# Altium schematic symbol library 2.0 - STM8系列单片机.SchLib: 126 symbols (part 1 of 4)
Pins are listed as number, name and electrical type; pins without a type are passive.

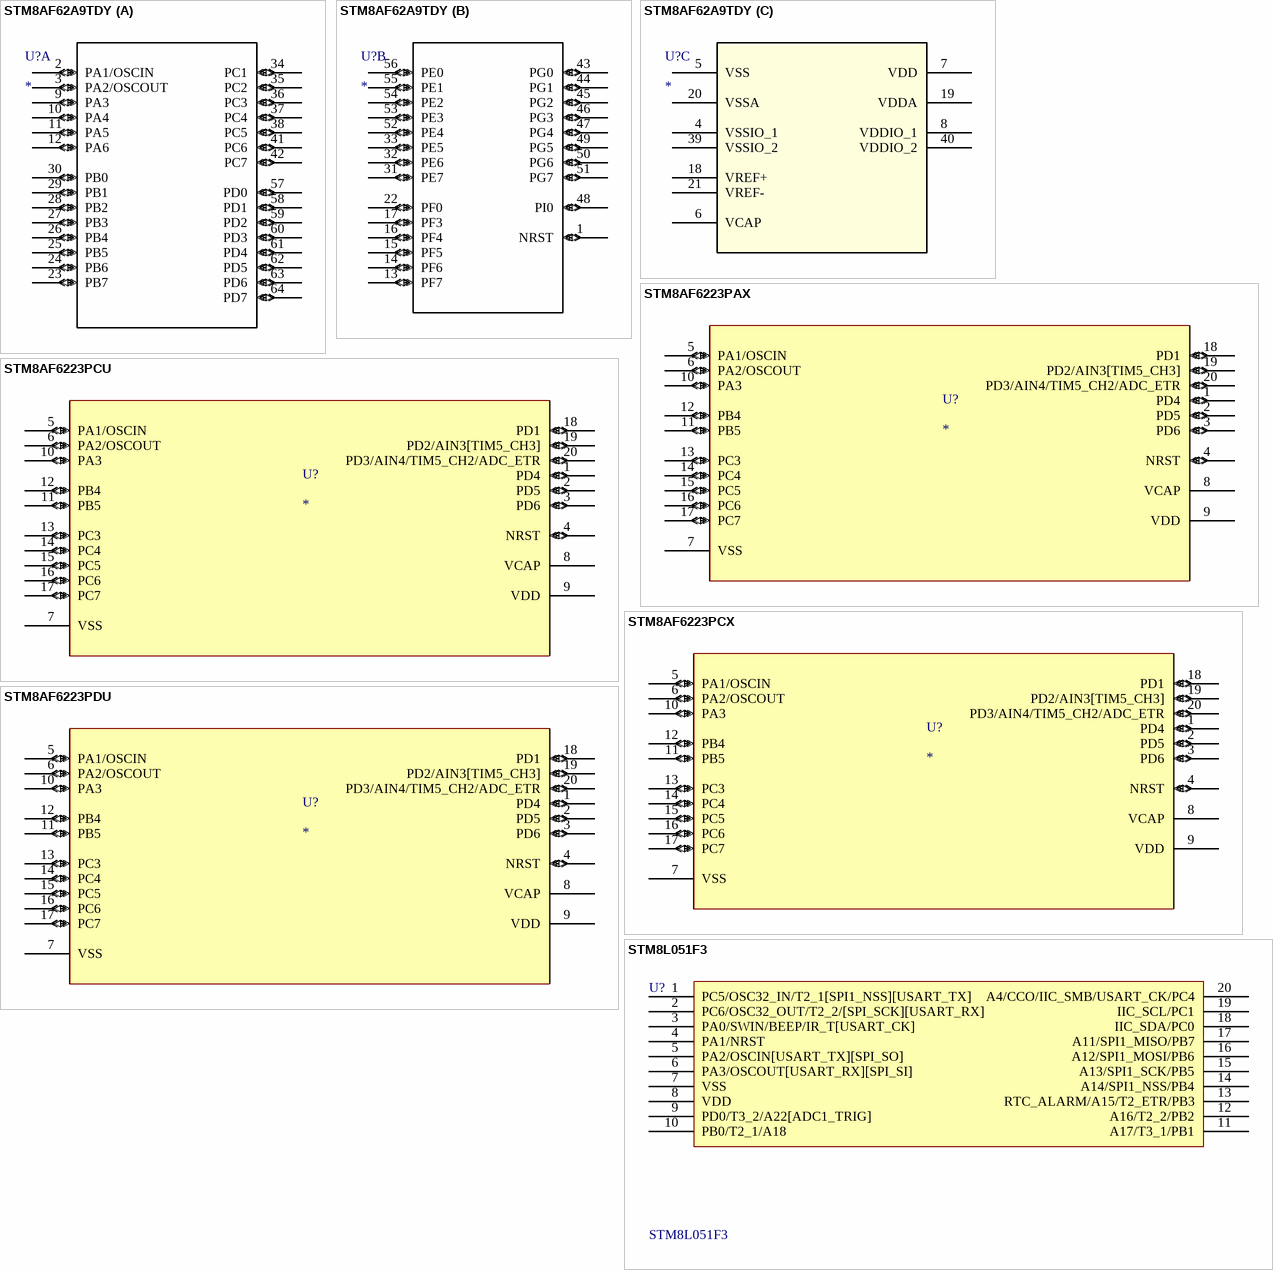
[diagram p0: symbols STM8AF62A9TDY to STM8L051F3]

## STM8AF62A9TDY
designator U?
封装库来自淘宝卖家 ID：黄晶宝石: 其他店铺购入均为盗版假冒封装库; 联系卖家 免费查找封装: 唯一出售店铺网址https://shop463601444.taobao.com
footprint LQFP64_N (封装库来自淘宝 ID：黄晶宝石 Thin QFP, 64-Leads, Body 10x10mm, Pitch 0.5mm, IPC Medium Density)
part A pins: 2 PA1/OSCIN (io), 3 PA2/OSCOUT (io), 9 PA3 (io), 10 PA4 (io), 11 PA5 (io), 12 PA6 (io), 23 PB7 (io), 24 PB6 (io), 25 PB5 (io), 26 PB4 (io), 27 PB3 (io), 28 PB2 (io), 29 PB1 (io), 30 PB0 (io), 34 PC1 (io), 35 PC2 (io), 36 PC3 (io), 37 PC4 (io), 38 PC5 (io), 41 PC6 (io), 42 PC7 (io), 57 PD0 (io), 58 PD1 (io), 59 PD2 (io), 60 PD3 (io), 61 PD4 (io), 62 PD5 (io), 63 PD6 (io), 64 PD7 (io)
part B pins: 1 NRST (io), 13 PF7 (io), 14 PF6 (io), 15 PF5 (io), 16 PF4 (io), 17 PF3 (io), 22 PF0 (io), 31 PE7 (io), 32 PE6 (io), 33 PE5 (io), 43 PG0 (io), 44 PG1 (io), 45 PG2 (io), 46 PG3 (io), 47 PG4 (io), 48 PI0 (io), 49 PG5 (io), 50 PG6 (io), 51 PG7 (io), 52 PE4 (io), 53 PE3 (io), 54 PE2 (io), 55 PE1 (io), 56 PE0 (io)
part C pins: 4 VSSIO_1 (power), 5 VSS (power), 6 VCAP (power), 7 VDD (power), 8 VDDIO_1 (power), 18 VREF+ (power), 19 VDDA (power), 20 VSSA (power), 21 VREF- (power), 39 VSSIO_2 (power), 40 VDDIO_2 (power)

## STM8AF6223PAX
designator U?
封装库来自淘宝卖家 ID：黄晶宝石: 其他店铺购入均为盗版假冒封装库; 联系卖家 免费查找封装: 唯一出售店铺网址https://shop463601444.taobao.com
footprint TSSOP20_N (TSOP, 20-Leads, Body 6.5x4.4mm, Pitch 0.65mm, IPC Medium Density)
pins: 1 PD4 (io), 2 PD5 (io), 3 PD6 (io), 4 NRST (io), 5 PA1/OSCIN (io), 6 PA2/OSCOUT (io), 7 VSS (power), 8 VCAP (power), 9 VDD (power), 10 PA3 (io), 11 PB5 (io), 12 PB4 (io), 13 PC3 (io), 14 PC4 (io), 15 PC5 (io), 16 PC6 (io), 17 PC7 (io), 18 PD1 (io), 19 PD2/AIN3[TIM5_CH3] (io), 20 PD3/AIN4/TIM5_CH2/ADC_ETR (io)

## STM8AF6223PCU
designator U?
封装库来自淘宝卖家 ID：黄晶宝石: 其他店铺购入均为盗版假冒封装库; 联系卖家 免费查找封装: 唯一出售店铺网址https://shop463601444.taobao.com
footprint TSSOP20_N (TSOP, 20-Leads, Body 6.5x4.4mm, Pitch 0.65mm, IPC Medium Density)
pins: 1 PD4 (io), 2 PD5 (io), 3 PD6 (io), 4 NRST (io), 5 PA1/OSCIN (io), 6 PA2/OSCOUT (io), 7 VSS (power), 8 VCAP (power), 9 VDD (power), 10 PA3 (io), 11 PB5 (io), 12 PB4 (io), 13 PC3 (io), 14 PC4 (io), 15 PC5 (io), 16 PC6 (io), 17 PC7 (io), 18 PD1 (io), 19 PD2/AIN3[TIM5_CH3] (io), 20 PD3/AIN4/TIM5_CH2/ADC_ETR (io)

## STM8AF6223PCX
designator U?
封装库来自淘宝卖家 ID：黄晶宝石: 其他店铺购入均为盗版假冒封装库; 联系卖家 免费查找封装: 唯一出售店铺网址https://shop463601444.taobao.com
footprint TSSOP20_N (TSOP, 20-Leads, Body 6.5x4.4mm, Pitch 0.65mm, IPC Medium Density)
pins: 1 PD4 (io), 2 PD5 (io), 3 PD6 (io), 4 NRST (io), 5 PA1/OSCIN (io), 6 PA2/OSCOUT (io), 7 VSS (power), 8 VCAP (power), 9 VDD (power), 10 PA3 (io), 11 PB5 (io), 12 PB4 (io), 13 PC3 (io), 14 PC4 (io), 15 PC5 (io), 16 PC6 (io), 17 PC7 (io), 18 PD1 (io), 19 PD2/AIN3[TIM5_CH3] (io), 20 PD3/AIN4/TIM5_CH2/ADC_ETR (io)

## STM8AF6223PDU
designator U?
封装库来自淘宝卖家 ID：黄晶宝石: 其他店铺购入均为盗版假冒封装库; 联系卖家 免费查找封装: 唯一出售店铺网址https://shop463601444.taobao.com
footprint TSSOP20_N (TSOP, 20-Leads, Body 6.5x4.4mm, Pitch 0.65mm, IPC Medium Density)
pins: 1 PD4 (io), 2 PD5 (io), 3 PD6 (io), 4 NRST (io), 5 PA1/OSCIN (io), 6 PA2/OSCOUT (io), 7 VSS (power), 8 VCAP (power), 9 VDD (power), 10 PA3 (io), 11 PB5 (io), 12 PB4 (io), 13 PC3 (io), 14 PC4 (io), 15 PC5 (io), 16 PC6 (io), 17 PC7 (io), 18 PD1 (io), 19 PD2/AIN3[TIM5_CH3] (io), 20 PD3/AIN4/TIM5_CH2/ADC_ETR (io)

## STM8L051F3
designator U?
Flash: 8K,     RAM: 1K,  IO: 18; BOM名称: STM-8位单片机; 封装库来自淘宝卖家 ID：黄晶宝石: 唯一出售店铺网址https://shop463601444.taobao.com; 参数: Flash: 8K,     RAM: 1K,  IO: 18
footprint TSSOP20_N (6.5*6.4*1（长宽高）)
footprint TSSOP20_L (6.5*6.4*1（长宽高）)
footprint TSSOP20_M (6.5*6.4*1（长宽高）)
pins: 1 PC5/OSC32_IN/T2_1[SPI1_NSS][USART_TX], 2 PC6/OSC32_OUT/T2_2/[SPI_SCK][USART_RX], 3 PA0/SWIN/BEEP/IR_T[USART_CK], 4 PA1/NRST, 5 PA2/OSCIN[USART_TX][SPI_SO], 6 PA3/OSCOUT[USART_RX][SPI_SI], 7 VSS, 8 VDD, 9 PD0/T3_2/A22[ADC1_TRIG], 10 PB0/T2_1/A18, 11 A17/T3_1/PB1, 12 A16/T2_2/PB2, 13 RTC_ALARM/A15/T2_ETR/PB3, 14 A14/SPI1_NSS/PB4, 15 A13/SPI1_SCK/PB5, 16 A12/SPI1_MOSI/PB6, 17 A11/SPI1_MISO/PB7, 18 IIC_SDA/PC0, 19 IIC_SCL/PC1, 20 A4/CCO/IIC_SMB/USART_CK/PC4

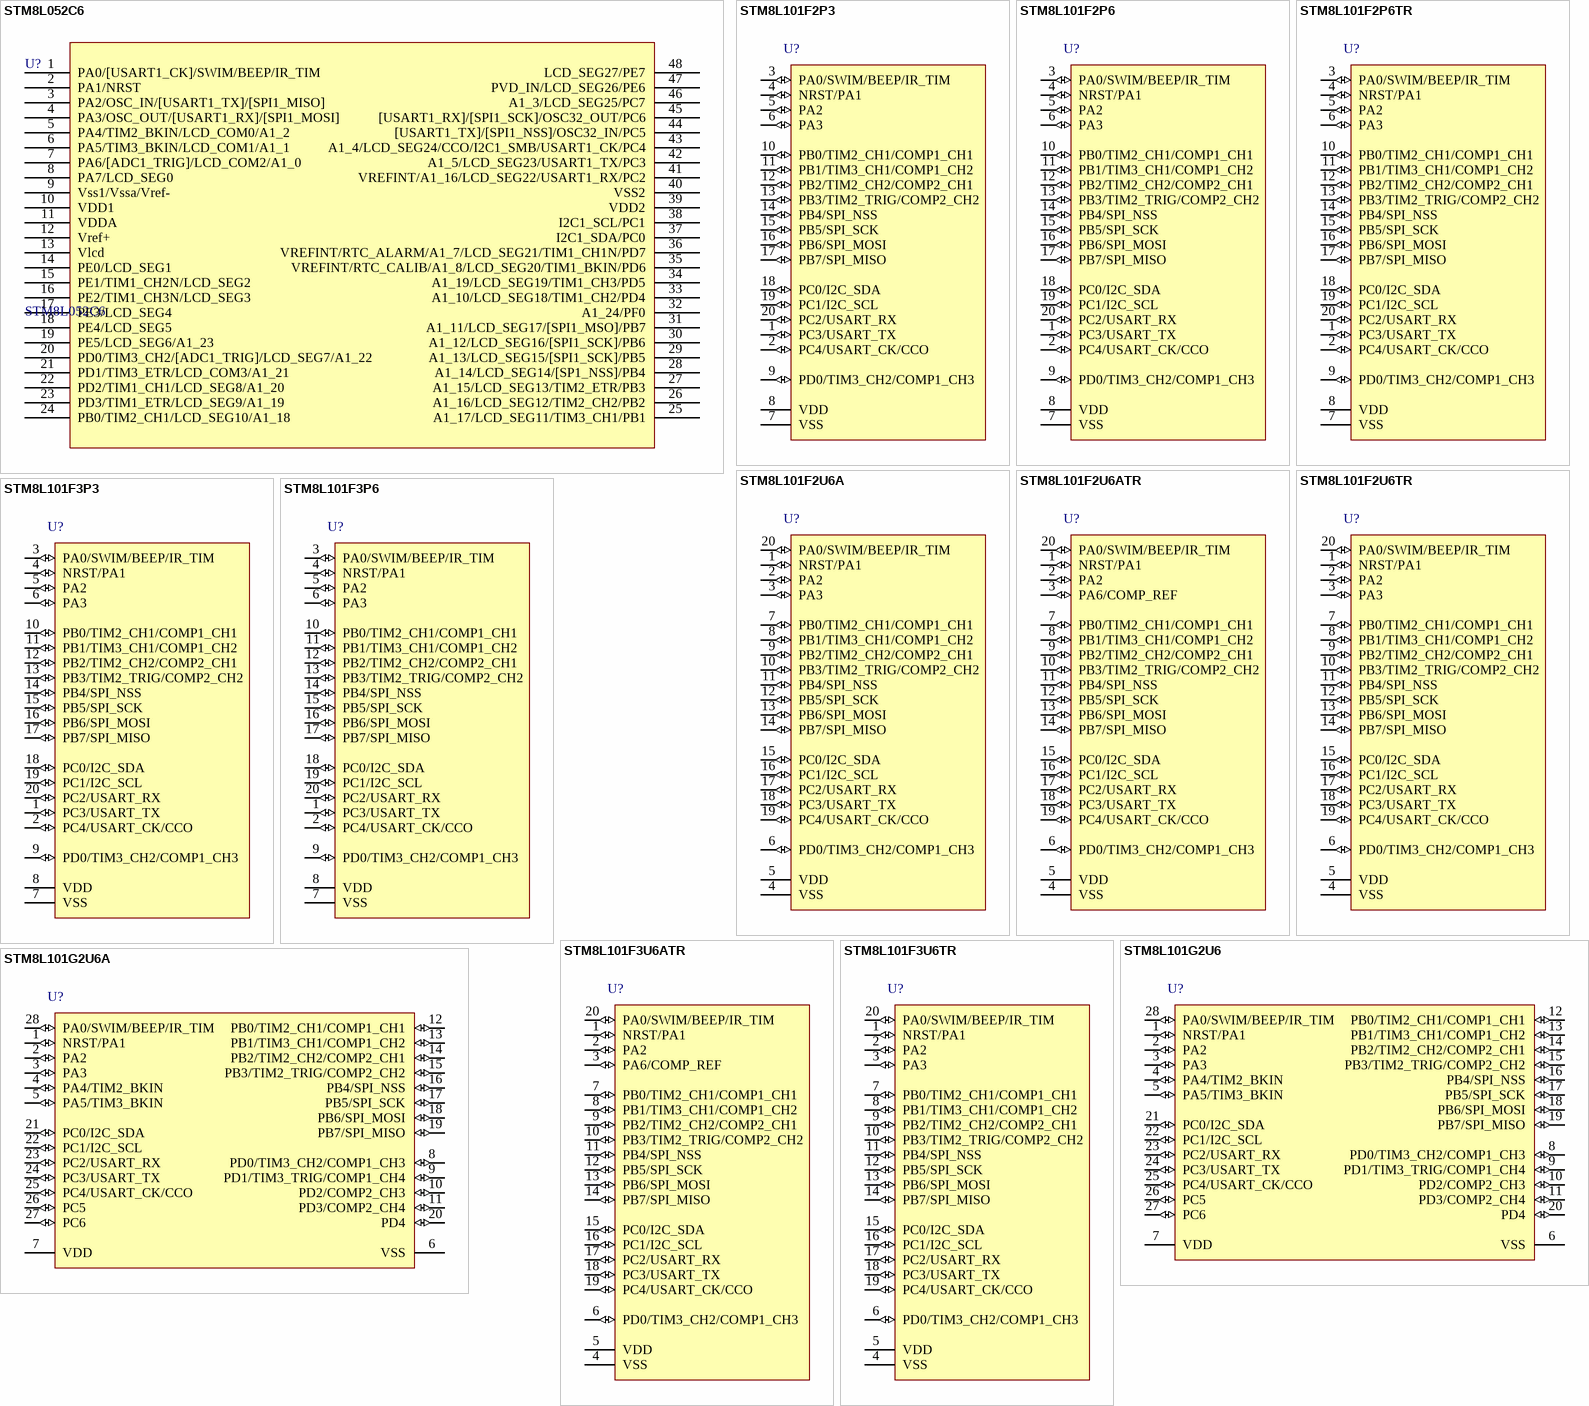
[diagram p1: symbols STM8L052C6 to STM8L101G2U6A]

## STM8L052C6
designator U?
Flash: 32K,    RAM: 2K,  IO: 41; BOM名称: STM-8位单片机; 封装库来自淘宝卖家 ID：黄晶宝石: 唯一出售店铺网址https://shop463601444.taobao.com; 参数: Flash: 32K,    RAM: 2K,  IO: 41
footprint LQFP48 7x7_N (48脚，体宽7x7mm，脚距0.5mm)
footprint LQFP48 7x7_L (48脚，体宽7x7mm，脚距0.5mm)
footprint LQFP48 7x7_M (48脚，体宽7x7mm，脚距0.5mm)
pins: 1 PA0/[USART1_CK]/SWIM/BEEP/IR_TIM, 2 PA1/NRST, 3 PA2/OSC_IN/[USART1_TX]/[SPI1_MISO], 4 PA3/OSC_OUT/[USART1_RX]/[SPI1_MOSI], 5 PA4/TIM2_BKIN/LCD_COM0/A1_2, 6 PA5/TIM3_BKIN/LCD_COM1/A1_1, 7 PA6/[ADC1_TRIG]/LCD_COM2/A1_0, 8 PA7/LCD_SEG0, 9 Vss1/Vssa/Vref-, 10 VDD1, 11 VDDA, 12 Vref+, 13 Vlcd, 14 PE0/LCD_SEG1, 15 PE1/TIM1_CH2N/LCD_SEG2, 16 PE2/TIM1_CH3N/LCD_SEG3, 17 PE3/LCD_SEG4, 18 PE4/LCD_SEG5, 19 PE5/LCD_SEG6/A1_23, 20 PD0/TIM3_CH2/[ADC1_TRIG]/LCD_SEG7/A1_22, 21 PD1/TIM3_ETR/LCD_COM3/A1_21, 22 PD2/TIM1_CH1/LCD_SEG8/A1_20, 23 PD3/TIM1_ETR/LCD_SEG9/A1_19, 24 PB0/TIM2_CH1/LCD_SEG10/A1_18, 25 A1_17/LCD_SEG11/TIM3_CH1/PB1, 26 A1_16/LCD_SEG12/TIM2_CH2/PB2, 27 A1_15/LCD_SEG13/TIM2_ETR/PB3, 28 A1_14/LCD_SEG14/[SP1_NSS]/PB4, 29 A1_13/LCD_SEG15/[SPI1_SCK]/PB5, 30 A1_12/LCD_SEG16/[SPI1_SCK]/PB6, 31 A1_11/LCD_SEG17/[SPI1_MSO]/PB7, 32 A1_24/PF0, 33 A1_10/LCD_SEG18/TIM1_CH2/PD4, 34 A1_19/LCD_SEG19/TIM1_CH3/PD5, 35 VREFINT/RTC_CALIB/A1_8/LCD_SEG20/TIM1_BKIN/PD6, 36 VREFINT/RTC_ALARM/A1_7/LCD_SEG21/TIM1_CH1N/PD7, 37 I2C1_SDA/PC0, 38 I2C1_SCL/PC1, 39 VDD2, 40 VSS2, 41 VREFINT/A1_16/LCD_SEG22/USART1_RX/PC2, 42 A1_5/LCD_SEG23/USART1_TX/PC3, 43 A1_4/LCD_SEG24/CCO/I2C1_SMB/USART1_CK/PC4, 44 [USART1_TX]/[SPI1_NSS]/OSC32_IN/PC5, 45 [USART1_RX]/[SPI1_SCK]/OSC32_OUT/PC6, 46 A1_3/LCD_SEG25/PC7, 47 PVD_IN/LCD_SEG26/PE6, 48 LCD_SEG27/PE7

## STM8L101F2P3
designator U?
STM8L ARM-based EnergyLite 8-bit MCU, 4 kB Flash, 1.5 kB Internal RAM, -40 to +85癈 Temperature, 20-pin TSSOP, Tube; 封装库来自淘宝卖家ID：黄晶宝石: 其他店铺购入均为盗版假冒封装库; PackageVersion: 2010; PackageReference: TSSOP20; PackageDescription: 20-Pin Thin Shrink Small Package Outline 0.65 mm Pitch; ComponentLink1Description: Manufacturer URL; ComponentLink1URL: http://www.st.com/; ComponentLink2Description: STM8L101 Datasheet; ComponentLink2URL: http://www.st.com/internet/com/TECHNICAL_RESOURCES/TECHNICAL_LITERATURE/DATASHEET/CD00220591.pdf; ComponentLink3Description: STM8L Family Web Page; ComponentLink3URL: http://www.st.com/internet/mcu/subclass/1381.jsp
footprint TSSOP20_N (Manufacturer "STMicroelectronics" not found)
footprint TSSOP20_L (TSOP, 20-Leads, Body 6.5x4.4mm, Pitch 0.65mm, IPC High Density)
footprint TSSOP20_M (TSOP, 20-Leads, Body 6.5x4.4mm, Pitch 0.65mm, IPC Low Density)
pins: 1 PC3/USART_TX (io), 2 PC4/USART_CK/CCO (io), 3 PA0/SWIM/BEEP/IR_TIM (io), 4 NRST/PA1 (io), 5 PA2 (io), 6 PA3 (io), 7 VSS (power), 8 VDD (power), 9 PD0/TIM3_CH2/COMP1_CH3 (io), 10 PB0/TIM2_CH1/COMP1_CH1 (io), 11 PB1/TIM3_CH1/COMP1_CH2 (io), 12 PB2/TIM2_CH2/COMP2_CH1 (io), 13 PB3/TIM2_TRIG/COMP2_CH2 (io), 14 PB4/SPI_NSS (io), 15 PB5/SPI_SCK (io), 16 PB6/SPI_MOSI (io), 17 PB7/SPI_MISO (io), 18 PC0/I2C_SDA (io), 19 PC1/I2C_SCL (io), 20 PC2/USART_RX (io)

## STM8L101F2P6
designator U?
STM8L ARM-based EnergyLite 8-bit MCU, 4 kB Flash, 1.5 kB Internal RAM, -40 to +85癈 Temperature, 20-pin TSSOP, Tube; 封装库来自淘宝卖家ID：黄晶宝石: 其他店铺购入均为盗版假冒封装库; PackageVersion: 2010; PackageReference: TSSOP20; PackageDescription: 20-Pin Thin Shrink Small Package Outline 0.65 mm Pitch; ComponentLink1Description: Manufacturer URL; ComponentLink1URL: http://www.st.com/; ComponentLink2Description: STM8L101 Datasheet; ComponentLink2URL: http://www.st.com/internet/com/TECHNICAL_RESOURCES/TECHNICAL_LITERATURE/DATASHEET/CD00220591.pdf; ComponentLink3Description: STM8L Family Web Page; ComponentLink3URL: http://www.st.com/internet/mcu/subclass/1381.jsp
footprint TSSOP20_N (Manufacturer "STMicroelectronics" not found)
footprint TSSOP20_L (TSOP, 20-Leads, Body 6.5x4.4mm, Pitch 0.65mm, IPC High Density)
footprint TSSOP20_M (TSOP, 20-Leads, Body 6.5x4.4mm, Pitch 0.65mm, IPC Low Density)
pins: 1 PC3/USART_TX (io), 2 PC4/USART_CK/CCO (io), 3 PA0/SWIM/BEEP/IR_TIM (io), 4 NRST/PA1 (io), 5 PA2 (io), 6 PA3 (io), 7 VSS (power), 8 VDD (power), 9 PD0/TIM3_CH2/COMP1_CH3 (io), 10 PB0/TIM2_CH1/COMP1_CH1 (io), 11 PB1/TIM3_CH1/COMP1_CH2 (io), 12 PB2/TIM2_CH2/COMP2_CH1 (io), 13 PB3/TIM2_TRIG/COMP2_CH2 (io), 14 PB4/SPI_NSS (io), 15 PB5/SPI_SCK (io), 16 PB6/SPI_MOSI (io), 17 PB7/SPI_MISO (io), 18 PC0/I2C_SDA (io), 19 PC1/I2C_SCL (io), 20 PC2/USART_RX (io)

## STM8L101F2P6TR
designator U?
STM8L ARM-based EnergyLite 8-bit MCU, 4 kB Flash, 1.5 kB Internal RAM, -40 to +85癈 Temperature, 20-pin TSSOP, Tape and Reel; 封装库来自淘宝卖家ID：黄晶宝石: 其他店铺购入均为盗版假冒封装库; PackageVersion: 2010; PackageReference: TSSOP20; PackageDescription: 20-Pin Thin Shrink Small Package Outline 0.65 mm Pitch; ComponentLink1Description: Manufacturer URL; ComponentLink1URL: http://www.st.com/; ComponentLink2Description: STM8L101 Datasheet; ComponentLink2URL: http://www.st.com/internet/com/TECHNICAL_RESOURCES/TECHNICAL_LITERATURE/DATASHEET/CD00220591.pdf; ComponentLink3Description: STM8L Family Web Page; ComponentLink3URL: http://www.st.com/internet/mcu/subclass/1381.jsp
footprint TSSOP20_N (Manufacturer "STMicroelectronics" not found)
footprint TSSOP20_L (TSOP, 20-Leads, Body 6.5x4.4mm, Pitch 0.65mm, IPC High Density)
footprint TSSOP20_M (TSOP, 20-Leads, Body 6.5x4.4mm, Pitch 0.65mm, IPC Low Density)
pins: 1 PC3/USART_TX (io), 2 PC4/USART_CK/CCO (io), 3 PA0/SWIM/BEEP/IR_TIM (io), 4 NRST/PA1 (io), 5 PA2 (io), 6 PA3 (io), 7 VSS (power), 8 VDD (power), 9 PD0/TIM3_CH2/COMP1_CH3 (io), 10 PB0/TIM2_CH1/COMP1_CH1 (io), 11 PB1/TIM3_CH1/COMP1_CH2 (io), 12 PB2/TIM2_CH2/COMP2_CH1 (io), 13 PB3/TIM2_TRIG/COMP2_CH2 (io), 14 PB4/SPI_NSS (io), 15 PB5/SPI_SCK (io), 16 PB6/SPI_MOSI (io), 17 PB7/SPI_MISO (io), 18 PC0/I2C_SDA (io), 19 PC1/I2C_SCL (io), 20 PC2/USART_RX (io)

## STM8L101F2U6A
designator U?
STM8L ARM-based EnergyLite 8-bit MCU, 4 kB Flash, 1.5 kB Internal RAM, -40 to +85癈 Temperature, 20-pin UFQFPN, Tube, COMP_REF available; 封装库来自淘宝卖家ID：黄晶宝石: 其他店铺购入均为盗版假冒封装库; PackageVersion: 26/04/2010; PackageReference: UFQFPN20; PackageDescription: 20-Pin Ultra Thin Fine Pitch Quad Flat No-Lead, 3 x 3 x 0.55 mm Body, 0.5 mm Pitch; ComponentLink1Description: Manufacturer URL; ComponentLink1URL: http://www.st.com/; ComponentLink2Description: STM8L101 Datasheet; ComponentLink2URL: http://www.st.com/internet/com/TECHNICAL_RESOURCES/TECHNICAL_LITERATURE/DATASHEET/CD00220591.pdf; ComponentLink3Description: STM8L Family Web Page; ComponentLink3URL: http://www.st.com/internet/mcu/subclass/1381.jsp
footprint UFQFPN20_V (Manufacturer "STMicroelectronics" not found)
pins: 1 NRST/PA1 (io), 2 PA2 (io), 3 PA3 (io), 4 VSS (power), 5 VDD (power), 6 PD0/TIM3_CH2/COMP1_CH3 (io), 7 PB0/TIM2_CH1/COMP1_CH1 (io), 8 PB1/TIM3_CH1/COMP1_CH2 (io), 9 PB2/TIM2_CH2/COMP2_CH1 (io), 10 PB3/TIM2_TRIG/COMP2_CH2 (io), 11 PB4/SPI_NSS (io), 12 PB5/SPI_SCK (io), 13 PB6/SPI_MOSI (io), 14 PB7/SPI_MISO (io), 15 PC0/I2C_SDA (io), 16 PC1/I2C_SCL (io), 17 PC2/USART_RX (io), 18 PC3/USART_TX (io), 19 PC4/USART_CK/CCO (io), 20 PA0/SWIM/BEEP/IR_TIM (io)

## STM8L101F2U6ATR
designator U?
STM8L ARM-based EnergyLite 8-bit MCU, 4 kB Flash, 1.5 kB Internal RAM, -40 to +85癈 Temperature, 20-pin UFQFPN, Tape and Reel, COMP_REF available; 封装库来自淘宝卖家ID：黄晶宝石: 其他店铺购入均为盗版假冒封装库; PackageVersion: 26/04/2010; PackageReference: UFQFPN20; PackageDescription: 20-Pin Ultra Thin Fine Pitch Quad Flat No-Lead, 3 x 3 x 0.55 mm Body, 0.5 mm Pitch; ComponentLink1Description: Manufacturer URL; ComponentLink1URL: http://www.st.com/; ComponentLink2Description: STM8L101 Datasheet; ComponentLink2URL: http://www.st.com/internet/com/TECHNICAL_RESOURCES/TECHNICAL_LITERATURE/DATASHEET/CD00220591.pdf; ComponentLink3Description: STM8L Family Web Page; ComponentLink3URL: http://www.st.com/internet/mcu/subclass/1381.jsp
footprint UFQFPN20_V (Manufacturer "STMicroelectronics" not found)
pins: 1 NRST/PA1 (io), 2 PA2 (io), 3 PA6/COMP_REF (io), 4 VSS (power), 5 VDD (power), 6 PD0/TIM3_CH2/COMP1_CH3 (io), 7 PB0/TIM2_CH1/COMP1_CH1 (io), 8 PB1/TIM3_CH1/COMP1_CH2 (io), 9 PB2/TIM2_CH2/COMP2_CH1 (io), 10 PB3/TIM2_TRIG/COMP2_CH2 (io), 11 PB4/SPI_NSS (io), 12 PB5/SPI_SCK (io), 13 PB6/SPI_MOSI (io), 14 PB7/SPI_MISO (io), 15 PC0/I2C_SDA (io), 16 PC1/I2C_SCL (io), 17 PC2/USART_RX (io), 18 PC3/USART_TX (io), 19 PC4/USART_CK/CCO (io), 20 PA0/SWIM/BEEP/IR_TIM (io)

## STM8L101F2U6TR
designator U?
STM8L ARM-based EnergyLite 8-bit MCU, 4 kB Flash, 1.5 kB Internal RAM, -40 to +85癈 Temperature, 20-pin UFQFPN, Tape and Reel; 封装库来自淘宝卖家ID：黄晶宝石: 其他店铺购入均为盗版假冒封装库; PackageVersion: 26/04/2010; PackageReference: UFQFPN20; PackageDescription: 20-Pin Ultra Thin Fine Pitch Quad Flat No-Lead, 3 x 3 x 0.55 mm Body, 0.5 mm Pitch; ComponentLink1Description: Manufacturer URL; ComponentLink1URL: http://www.st.com/; ComponentLink2Description: STM8L101 Datasheet; ComponentLink2URL: http://www.st.com/internet/com/TECHNICAL_RESOURCES/TECHNICAL_LITERATURE/DATASHEET/CD00220591.pdf; ComponentLink3Description: STM8L Family Web Page; ComponentLink3URL: http://www.st.com/internet/mcu/subclass/1381.jsp
footprint UFQFPN20_V (Manufacturer "STMicroelectronics" not found)
pins: 1 NRST/PA1 (io), 2 PA2 (io), 3 PA3 (io), 4 VSS (power), 5 VDD (power), 6 PD0/TIM3_CH2/COMP1_CH3 (io), 7 PB0/TIM2_CH1/COMP1_CH1 (io), 8 PB1/TIM3_CH1/COMP1_CH2 (io), 9 PB2/TIM2_CH2/COMP2_CH1 (io), 10 PB3/TIM2_TRIG/COMP2_CH2 (io), 11 PB4/SPI_NSS (io), 12 PB5/SPI_SCK (io), 13 PB6/SPI_MOSI (io), 14 PB7/SPI_MISO (io), 15 PC0/I2C_SDA (io), 16 PC1/I2C_SCL (io), 17 PC2/USART_RX (io), 18 PC3/USART_TX (io), 19 PC4/USART_CK/CCO (io), 20 PA0/SWIM/BEEP/IR_TIM (io)

## STM8L101F3P3
designator U?
STM8L ARM-based EnergyLite 8-bit MCU, 8 kB Flash, 1.5 kB Internal RAM, -40 to +125癈 Temperature, 20-pin TSSOP, Tube; 封装库来自淘宝卖家ID：黄晶宝石: 其他店铺购入均为盗版假冒封装库; PackageVersion: 2010; PackageReference: TSSOP20; PackageDescription: 20-Pin Thin Shrink Small Package Outline 0.65 mm Pitch; ComponentLink1Description: Manufacturer URL; ComponentLink1URL: http://www.st.com/; ComponentLink2Description: STM8L101 Datasheet; ComponentLink2URL: http://www.st.com/internet/com/TECHNICAL_RESOURCES/TECHNICAL_LITERATURE/DATASHEET/CD00220591.pdf; ComponentLink3Description: STM8L Family Web Page; ComponentLink3URL: http://www.st.com/internet/mcu/subclass/1381.jsp
footprint TSSOP20_N (Manufacturer "STMicroelectronics" not found)
footprint TSSOP20_L (TSOP, 20-Leads, Body 6.5x4.4mm, Pitch 0.65mm, IPC High Density)
footprint TSSOP20_M (TSOP, 20-Leads, Body 6.5x4.4mm, Pitch 0.65mm, IPC Low Density)
pins: 1 PC3/USART_TX (io), 2 PC4/USART_CK/CCO (io), 3 PA0/SWIM/BEEP/IR_TIM (io), 4 NRST/PA1 (io), 5 PA2 (io), 6 PA3 (io), 7 VSS (power), 8 VDD (power), 9 PD0/TIM3_CH2/COMP1_CH3 (io), 10 PB0/TIM2_CH1/COMP1_CH1 (io), 11 PB1/TIM3_CH1/COMP1_CH2 (io), 12 PB2/TIM2_CH2/COMP2_CH1 (io), 13 PB3/TIM2_TRIG/COMP2_CH2 (io), 14 PB4/SPI_NSS (io), 15 PB5/SPI_SCK (io), 16 PB6/SPI_MOSI (io), 17 PB7/SPI_MISO (io), 18 PC0/I2C_SDA (io), 19 PC1/I2C_SCL (io), 20 PC2/USART_RX (io)

## STM8L101F3P6
designator U?
STM8L ARM-based EnergyLite 8-bit MCU, 8 kB Flash, 1.5 kB Internal RAM, -40 to +85癈 Temperature, 20-pin TSSOP, Tube; 封装库来自淘宝卖家ID：黄晶宝石: 其他店铺购入均为盗版假冒封装库; PackageVersion: 2010; PackageReference: TSSOP20; PackageDescription: 20-Pin Thin Shrink Small Package Outline 0.65 mm Pitch; ComponentLink1Description: Manufacturer URL; ComponentLink1URL: http://www.st.com/; ComponentLink2Description: STM8L101 Datasheet; ComponentLink2URL: http://www.st.com/internet/com/TECHNICAL_RESOURCES/TECHNICAL_LITERATURE/DATASHEET/CD00220591.pdf; ComponentLink3Description: STM8L Family Web Page; ComponentLink3URL: http://www.st.com/internet/mcu/subclass/1381.jsp
footprint TSSOP20_N (Manufacturer "STMicroelectronics" not found)
footprint TSSOP20_L (TSOP, 20-Leads, Body 6.5x4.4mm, Pitch 0.65mm, IPC High Density)
footprint TSSOP20_M (TSOP, 20-Leads, Body 6.5x4.4mm, Pitch 0.65mm, IPC Low Density)
pins: 1 PC3/USART_TX (io), 2 PC4/USART_CK/CCO (io), 3 PA0/SWIM/BEEP/IR_TIM (io), 4 NRST/PA1 (io), 5 PA2 (io), 6 PA3 (io), 7 VSS (power), 8 VDD (power), 9 PD0/TIM3_CH2/COMP1_CH3 (io), 10 PB0/TIM2_CH1/COMP1_CH1 (io), 11 PB1/TIM3_CH1/COMP1_CH2 (io), 12 PB2/TIM2_CH2/COMP2_CH1 (io), 13 PB3/TIM2_TRIG/COMP2_CH2 (io), 14 PB4/SPI_NSS (io), 15 PB5/SPI_SCK (io), 16 PB6/SPI_MOSI (io), 17 PB7/SPI_MISO (io), 18 PC0/I2C_SDA (io), 19 PC1/I2C_SCL (io), 20 PC2/USART_RX (io)

## STM8L101F3U6ATR
designator U?
STM8L ARM-based EnergyLite 8-bit MCU, 8 kB Flash, 1.5 kB Internal RAM, -40 to +85癈 Temperature, 20-pin UFQFPN, Tape and Reel, COMP_REF available; 封装库来自淘宝卖家ID：黄晶宝石: 其他店铺购入均为盗版假冒封装库; PackageVersion: 26/04/2010; PackageReference: UFQFPN20; PackageDescription: 20-Pin Ultra Thin Fine Pitch Quad Flat No-Lead, 3 x 3 x 0.55 mm Body, 0.5 mm Pitch; ComponentLink1Description: Manufacturer URL; ComponentLink1URL: http://www.st.com/; ComponentLink2Description: STM8L101 Datasheet; ComponentLink2URL: http://www.st.com/internet/com/TECHNICAL_RESOURCES/TECHNICAL_LITERATURE/DATASHEET/CD00220591.pdf; ComponentLink3Description: STM8L Family Web Page; ComponentLink3URL: http://www.st.com/internet/mcu/subclass/1381.jsp
footprint UFQFPN20_V (Manufacturer "STMicroelectronics" not found)
pins: 1 NRST/PA1 (io), 2 PA2 (io), 3 PA6/COMP_REF (io), 4 VSS (power), 5 VDD (power), 6 PD0/TIM3_CH2/COMP1_CH3 (io), 7 PB0/TIM2_CH1/COMP1_CH1 (io), 8 PB1/TIM3_CH1/COMP1_CH2 (io), 9 PB2/TIM2_CH2/COMP2_CH1 (io), 10 PB3/TIM2_TRIG/COMP2_CH2 (io), 11 PB4/SPI_NSS (io), 12 PB5/SPI_SCK (io), 13 PB6/SPI_MOSI (io), 14 PB7/SPI_MISO (io), 15 PC0/I2C_SDA (io), 16 PC1/I2C_SCL (io), 17 PC2/USART_RX (io), 18 PC3/USART_TX (io), 19 PC4/USART_CK/CCO (io), 20 PA0/SWIM/BEEP/IR_TIM (io)

## STM8L101F3U6TR
designator U?
STM8L ARM-based EnergyLite 8-bit MCU, 8 kB Flash, 1.5 kB Internal RAM, -40 to +85癈 Temperature, 20-pin UFQFPN, Tape and Reel; 封装库来自淘宝卖家ID：黄晶宝石: 其他店铺购入均为盗版假冒封装库; PackageVersion: 26/04/2010; PackageReference: UFQFPN20; PackageDescription: 20-Pin Ultra Thin Fine Pitch Quad Flat No-Lead, 3 x 3 x 0.55 mm Body, 0.5 mm Pitch; ComponentLink1Description: Manufacturer URL; ComponentLink1URL: http://www.st.com/; ComponentLink2Description: STM8L101 Datasheet; ComponentLink2URL: http://www.st.com/internet/com/TECHNICAL_RESOURCES/TECHNICAL_LITERATURE/DATASHEET/CD00220591.pdf; ComponentLink3Description: STM8L Family Web Page; ComponentLink3URL: http://www.st.com/internet/mcu/subclass/1381.jsp
footprint UFQFPN20_V (Manufacturer "STMicroelectronics" not found)
pins: 1 NRST/PA1 (io), 2 PA2 (io), 3 PA3 (io), 4 VSS (power), 5 VDD (power), 6 PD0/TIM3_CH2/COMP1_CH3 (io), 7 PB0/TIM2_CH1/COMP1_CH1 (io), 8 PB1/TIM3_CH1/COMP1_CH2 (io), 9 PB2/TIM2_CH2/COMP2_CH1 (io), 10 PB3/TIM2_TRIG/COMP2_CH2 (io), 11 PB4/SPI_NSS (io), 12 PB5/SPI_SCK (io), 13 PB6/SPI_MOSI (io), 14 PB7/SPI_MISO (io), 15 PC0/I2C_SDA (io), 16 PC1/I2C_SCL (io), 17 PC2/USART_RX (io), 18 PC3/USART_TX (io), 19 PC4/USART_CK/CCO (io), 20 PA0/SWIM/BEEP/IR_TIM (io)

## STM8L101G2U6
designator U?
STM8L ARM-based EnergyLite 8-bit MCU, 4 kB Flash, 1.5 kB Internal RAM, -40 to +85癈 Temperature, 28-pin UFQFPN, Tray; 封装库来自淘宝卖家ID：黄晶宝石: 其他店铺购入均为盗版假冒封装库; PackageVersion: 26/04/2010; PackageReference: UFQFPN28; PackageDescription: 28-Pin Ultra Thin Fine Pitch Quad Flat No-Lead, 4 x 4 x 0.55 mm Body, 0.5 mm Pitch; ComponentLink1Description: Manufacturer URL; ComponentLink1URL: http://www.st.com/; ComponentLink2Description: STM8L101 Datasheet; ComponentLink2URL: http://www.st.com/internet/com/TECHNICAL_RESOURCES/TECHNICAL_LITERATURE/DATASHEET/CD00220591.pdf; ComponentLink3Description: STM8L Family Web Page; ComponentLink3URL: http://www.st.com/internet/mcu/subclass/1381.jsp
footprint UFQFPN28_V (Manufacturer "STMicroelectronics" not found)
pins: 1 NRST/PA1 (io), 2 PA2 (io), 3 PA3 (io), 4 PA4/TIM2_BKIN (io), 5 PA5/TIM3_BKIN (io), 6 VSS (power), 7 VDD (power), 8 PD0/TIM3_CH2/COMP1_CH3 (io), 9 PD1/TIM3_TRIG/COMP1_CH4 (io), 10 PD2/COMP2_CH3 (io), 11 PD3/COMP2_CH4 (io), 12 PB0/TIM2_CH1/COMP1_CH1 (io), 13 PB1/TIM3_CH1/COMP1_CH2 (io), 14 PB2/TIM2_CH2/COMP2_CH1 (io), 15 PB3/TIM2_TRIG/COMP2_CH2 (io), 16 PB4/SPI_NSS (io), 17 PB5/SPI_SCK (io), 18 PB6/SPI_MOSI (io), 19 PB7/SPI_MISO (io), 20 PD4 (io), 21 PC0/I2C_SDA (io), 22 PC1/I2C_SCL (io), 23 PC2/USART_RX (io), 24 PC3/USART_TX (io), 25 PC4/USART_CK/CCO (io), 26 PC5 (io), 27 PC6 (io), 28 PA0/SWIM/BEEP/IR_TIM (io)

## STM8L101G2U6A
designator U?
STM8L ARM-based EnergyLite 8-bit MCU, 4 kB Flash, 1.5 kB Internal RAM, -40 to +85癈 Temperature, 28-pin UFQFPN, Tray, COMP_REF available; 封装库来自淘宝卖家ID：黄晶宝石: 其他店铺购入均为盗版假冒封装库; PackageVersion: 26/04/2010; PackageReference: UFQFPN28; PackageDescription: 28-Pin Ultra Thin Fine Pitch Quad Flat No-Lead, 4 x 4 x 0.55 mm Body, 0.5 mm Pitch; ComponentLink1Description: Manufacturer URL; ComponentLink1URL: http://www.st.com/; ComponentLink2Description: STM8L101 Datasheet; ComponentLink2URL: http://www.st.com/internet/com/TECHNICAL_RESOURCES/TECHNICAL_LITERATURE/DATASHEET/CD00220591.pdf; ComponentLink3Description: STM8L Family Web Page; ComponentLink3URL: http://www.st.com/internet/mcu/subclass/1381.jsp
footprint UFQFPN28_V (Manufacturer "STMicroelectronics" not found)
pins: 1 NRST/PA1 (io), 2 PA2 (io), 3 PA3 (io), 4 PA4/TIM2_BKIN (io), 5 PA5/TIM3_BKIN (io), 6 VSS (power), 7 VDD (power), 8 PD0/TIM3_CH2/COMP1_CH3 (io), 9 PD1/TIM3_TRIG/COMP1_CH4 (io), 10 PD2/COMP2_CH3 (io), 11 PD3/COMP2_CH4 (io), 12 PB0/TIM2_CH1/COMP1_CH1 (io), 13 PB1/TIM3_CH1/COMP1_CH2 (io), 14 PB2/TIM2_CH2/COMP2_CH1 (io), 15 PB3/TIM2_TRIG/COMP2_CH2 (io), 16 PB4/SPI_NSS (io), 17 PB5/SPI_SCK (io), 18 PB6/SPI_MOSI (io), 19 PB7/SPI_MISO (io), 20 PD4 (io), 21 PC0/I2C_SDA (io), 22 PC1/I2C_SCL (io), 23 PC2/USART_RX (io), 24 PC3/USART_TX (io), 25 PC4/USART_CK/CCO (io), 26 PC5 (io), 27 PC6 (io), 28 PA0/SWIM/BEEP/IR_TIM (io)

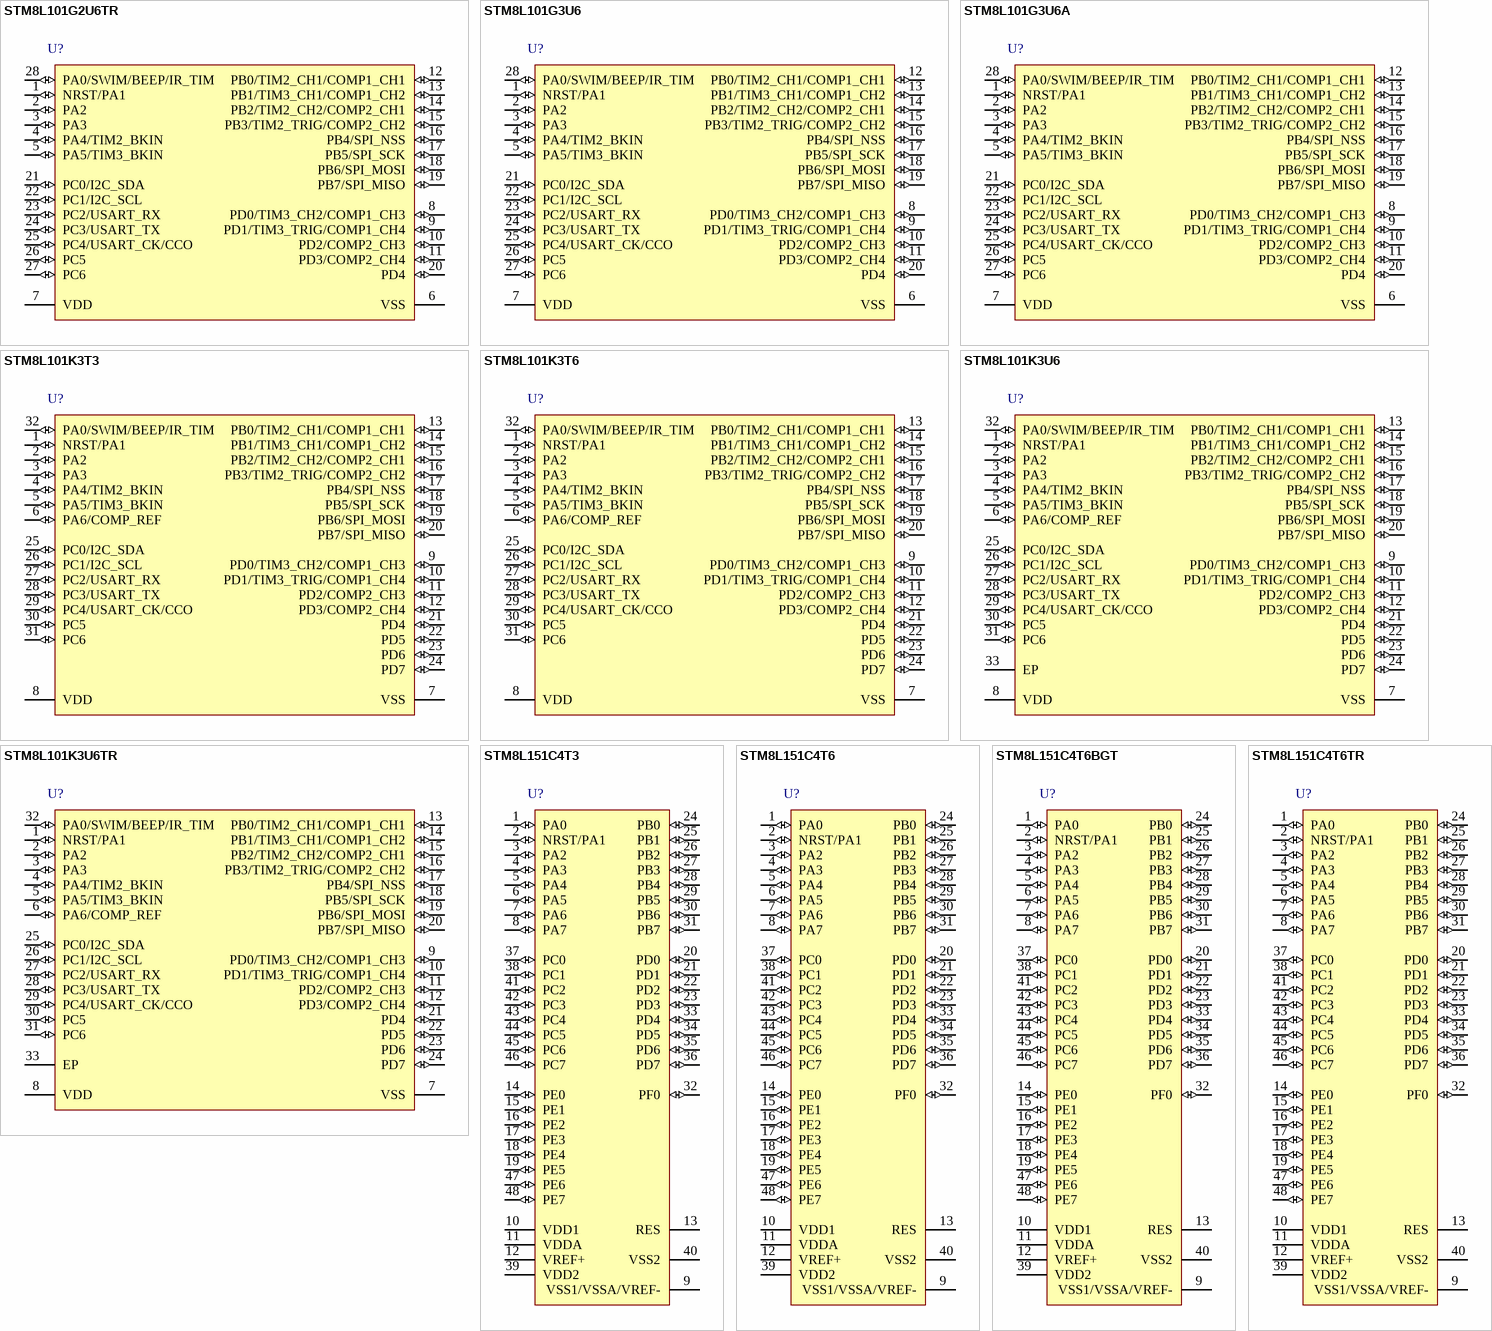
[diagram p2: symbols STM8L101G2U6TR to STM8L151C4T6TR]

## STM8L101G2U6TR
designator U?
STM8L ARM-based EnergyLite 8-bit MCU, 4 kB Flash, 1.5 kB Internal RAM, -40 to +85癈 Temperature, 28-pin UFQFPN, Tape and Reel; 封装库来自淘宝卖家ID：黄晶宝石: 其他店铺购入均为盗版假冒封装库; PackageVersion: 26/04/2010; PackageReference: UFQFPN28; PackageDescription: 28-Pin Ultra Thin Fine Pitch Quad Flat No-Lead, 4 x 4 x 0.55 mm Body, 0.5 mm Pitch; ComponentLink1Description: Manufacturer URL; ComponentLink1URL: http://www.st.com/; ComponentLink2Description: STM8L101 Datasheet; ComponentLink2URL: http://www.st.com/internet/com/TECHNICAL_RESOURCES/TECHNICAL_LITERATURE/DATASHEET/CD00220591.pdf; ComponentLink3Description: STM8L Family Web Page; ComponentLink3URL: http://www.st.com/internet/mcu/subclass/1381.jsp
footprint UFQFPN28_V (Manufacturer "STMicroelectronics" not found)
pins: 1 NRST/PA1 (io), 2 PA2 (io), 3 PA3 (io), 4 PA4/TIM2_BKIN (io), 5 PA5/TIM3_BKIN (io), 6 VSS (power), 7 VDD (power), 8 PD0/TIM3_CH2/COMP1_CH3 (io), 9 PD1/TIM3_TRIG/COMP1_CH4 (io), 10 PD2/COMP2_CH3 (io), 11 PD3/COMP2_CH4 (io), 12 PB0/TIM2_CH1/COMP1_CH1 (io), 13 PB1/TIM3_CH1/COMP1_CH2 (io), 14 PB2/TIM2_CH2/COMP2_CH1 (io), 15 PB3/TIM2_TRIG/COMP2_CH2 (io), 16 PB4/SPI_NSS (io), 17 PB5/SPI_SCK (io), 18 PB6/SPI_MOSI (io), 19 PB7/SPI_MISO (io), 20 PD4 (io), 21 PC0/I2C_SDA (io), 22 PC1/I2C_SCL (io), 23 PC2/USART_RX (io), 24 PC3/USART_TX (io), 25 PC4/USART_CK/CCO (io), 26 PC5 (io), 27 PC6 (io), 28 PA0/SWIM/BEEP/IR_TIM (io)

## STM8L101G3U6
designator U?
STM8L ARM-based EnergyLite 8-bit MCU, 8 kB Flash, 1.5 kB Internal RAM, -40 to +85癈 Temperature, 28-pin UFQFPN, Tray; 封装库来自淘宝卖家ID：黄晶宝石: 其他店铺购入均为盗版假冒封装库; PackageVersion: 26/04/2010; PackageReference: UFQFPN28; PackageDescription: 28-Pin Ultra Thin Fine Pitch Quad Flat No-Lead, 4 x 4 x 0.55 mm Body, 0.5 mm Pitch; ComponentLink1Description: Manufacturer URL; ComponentLink1URL: http://www.st.com/; ComponentLink2Description: STM8L101 Datasheet; ComponentLink2URL: http://www.st.com/internet/com/TECHNICAL_RESOURCES/TECHNICAL_LITERATURE/DATASHEET/CD00220591.pdf; ComponentLink3Description: STM8L Family Web Page; ComponentLink3URL: http://www.st.com/internet/mcu/subclass/1381.jsp
footprint UFQFPN28_V (Manufacturer "STMicroelectronics" not found)
pins: 1 NRST/PA1 (io), 2 PA2 (io), 3 PA3 (io), 4 PA4/TIM2_BKIN (io), 5 PA5/TIM3_BKIN (io), 6 VSS (power), 7 VDD (power), 8 PD0/TIM3_CH2/COMP1_CH3 (io), 9 PD1/TIM3_TRIG/COMP1_CH4 (io), 10 PD2/COMP2_CH3 (io), 11 PD3/COMP2_CH4 (io), 12 PB0/TIM2_CH1/COMP1_CH1 (io), 13 PB1/TIM3_CH1/COMP1_CH2 (io), 14 PB2/TIM2_CH2/COMP2_CH1 (io), 15 PB3/TIM2_TRIG/COMP2_CH2 (io), 16 PB4/SPI_NSS (io), 17 PB5/SPI_SCK (io), 18 PB6/SPI_MOSI (io), 19 PB7/SPI_MISO (io), 20 PD4 (io), 21 PC0/I2C_SDA (io), 22 PC1/I2C_SCL (io), 23 PC2/USART_RX (io), 24 PC3/USART_TX (io), 25 PC4/USART_CK/CCO (io), 26 PC5 (io), 27 PC6 (io), 28 PA0/SWIM/BEEP/IR_TIM (io)

## STM8L101G3U6A
designator U?
STM8L ARM-based EnergyLite 8-bit MCU, 8 kB Flash, 1.5 kB Internal RAM, -40 to +85癈 Temperature, 28-pin UFQFPN, Tray, COMP_REF available; 封装库来自淘宝卖家ID：黄晶宝石: 其他店铺购入均为盗版假冒封装库; PackageVersion: 26/04/2010; PackageReference: UFQFPN28; PackageDescription: 28-Pin Ultra Thin Fine Pitch Quad Flat No-Lead, 4 x 4 x 0.55 mm Body, 0.5 mm Pitch; ComponentLink1Description: Manufacturer URL; ComponentLink1URL: http://www.st.com/; ComponentLink2Description: STM8L101 Datasheet; ComponentLink2URL: http://www.st.com/internet/com/TECHNICAL_RESOURCES/TECHNICAL_LITERATURE/DATASHEET/CD00220591.pdf; ComponentLink3Description: STM8L Family Web Page; ComponentLink3URL: http://www.st.com/internet/mcu/subclass/1381.jsp
footprint UFQFPN28_V (Manufacturer "STMicroelectronics" not found)
pins: 1 NRST/PA1 (io), 2 PA2 (io), 3 PA3 (io), 4 PA4/TIM2_BKIN (io), 5 PA5/TIM3_BKIN (io), 6 VSS (power), 7 VDD (power), 8 PD0/TIM3_CH2/COMP1_CH3 (io), 9 PD1/TIM3_TRIG/COMP1_CH4 (io), 10 PD2/COMP2_CH3 (io), 11 PD3/COMP2_CH4 (io), 12 PB0/TIM2_CH1/COMP1_CH1 (io), 13 PB1/TIM3_CH1/COMP1_CH2 (io), 14 PB2/TIM2_CH2/COMP2_CH1 (io), 15 PB3/TIM2_TRIG/COMP2_CH2 (io), 16 PB4/SPI_NSS (io), 17 PB5/SPI_SCK (io), 18 PB6/SPI_MOSI (io), 19 PB7/SPI_MISO (io), 20 PD4 (io), 21 PC0/I2C_SDA (io), 22 PC1/I2C_SCL (io), 23 PC2/USART_RX (io), 24 PC3/USART_TX (io), 25 PC4/USART_CK/CCO (io), 26 PC5 (io), 27 PC6 (io), 28 PA0/SWIM/BEEP/IR_TIM (io)

## STM8L101K3T3
designator U?
STM8L ARM-based EnergyLite 8-bit MCU, 8 kB Flash, 1.5 kB Internal RAM, -40 to +125癈 Temperature, 32-pin LQFP, Tray; 封装库来自淘宝卖家ID：黄晶宝石: 其他店铺购入均为盗版假冒封装库; PackageVersion: 2010; PackageReference: LQFP32; PackageDescription: 32-Pin Low Profile Quad Flat Pack, 7 x 7 mm Body, 0.8 mm Pitch; ComponentLink1Description: Manufacturer URL; ComponentLink1URL: http://www.st.com/; ComponentLink2Description: STM8L101 Datasheet; ComponentLink2URL: http://www.st.com/internet/com/TECHNICAL_RESOURCES/TECHNICAL_LITERATURE/DATASHEET/CD00220591.pdf; ComponentLink3Description: STM8L Family Web Page; ComponentLink3URL: http://www.st.com/internet/mcu/subclass/1381.jsp
footprint LQFP32_N (Manufacturer "STMicroelectronics" not found)
footprint LQFP32_L (Thin QFP, 32-Leads, Body 7x7mm, Pitch 0.8mm, IPC High Density)
footprint LQFP32_M (Thin QFP, 32-Leads, Body 7x7mm, Pitch 0.8mm, IPC Low Density)
pins: 1 NRST/PA1 (io), 2 PA2 (io), 3 PA3 (io), 4 PA4/TIM2_BKIN (io), 5 PA5/TIM3_BKIN (io), 6 PA6/COMP_REF (io), 7 VSS (power), 8 VDD (power), 9 PD0/TIM3_CH2/COMP1_CH3 (io), 10 PD1/TIM3_TRIG/COMP1_CH4 (io), 11 PD2/COMP2_CH3 (io), 12 PD3/COMP2_CH4 (io), 13 PB0/TIM2_CH1/COMP1_CH1 (io), 14 PB1/TIM3_CH1/COMP1_CH2 (io), 15 PB2/TIM2_CH2/COMP2_CH1 (io), 16 PB3/TIM2_TRIG/COMP2_CH2 (io), 17 PB4/SPI_NSS (io), 18 PB5/SPI_SCK (io), 19 PB6/SPI_MOSI (io), 20 PB7/SPI_MISO (io), 21 PD4 (io), 22 PD5 (io), 23 PD6 (io), 24 PD7 (io), 25 PC0/I2C_SDA (io), 26 PC1/I2C_SCL (io), 27 PC2/USART_RX (io), 28 PC3/USART_TX (io), 29 PC4/USART_CK/CCO (io), 30 PC5 (io), 31 PC6 (io), 32 PA0/SWIM/BEEP/IR_TIM (io)

## STM8L101K3T6
designator U?
STM8L ARM-based EnergyLite 8-bit MCU, 8 kB Flash, 1.5 kB Internal RAM, -40 to +85癈 Temperature, 32-pin LQFP, Tray; 封装库来自淘宝卖家ID：黄晶宝石: 其他店铺购入均为盗版假冒封装库; PackageVersion: 2010; PackageReference: LQFP32; PackageDescription: 32-Pin Low Profile Quad Flat Pack, 7 x 7 mm Body, 0.8 mm Pitch; ComponentLink1Description: Manufacturer URL; ComponentLink1URL: http://www.st.com/; ComponentLink2Description: STM8L101 Datasheet; ComponentLink2URL: http://www.st.com/internet/com/TECHNICAL_RESOURCES/TECHNICAL_LITERATURE/DATASHEET/CD00220591.pdf; ComponentLink3Description: STM8L Family Web Page; ComponentLink3URL: http://www.st.com/internet/mcu/subclass/1381.jsp
footprint LQFP32_N (Manufacturer "STMicroelectronics" not found)
footprint LQFP32_L (Thin QFP, 32-Leads, Body 7x7mm, Pitch 0.8mm, IPC High Density)
footprint LQFP32_M (Thin QFP, 32-Leads, Body 7x7mm, Pitch 0.8mm, IPC Low Density)
pins: 1 NRST/PA1 (io), 2 PA2 (io), 3 PA3 (io), 4 PA4/TIM2_BKIN (io), 5 PA5/TIM3_BKIN (io), 6 PA6/COMP_REF (io), 7 VSS (power), 8 VDD (power), 9 PD0/TIM3_CH2/COMP1_CH3 (io), 10 PD1/TIM3_TRIG/COMP1_CH4 (io), 11 PD2/COMP2_CH3 (io), 12 PD3/COMP2_CH4 (io), 13 PB0/TIM2_CH1/COMP1_CH1 (io), 14 PB1/TIM3_CH1/COMP1_CH2 (io), 15 PB2/TIM2_CH2/COMP2_CH1 (io), 16 PB3/TIM2_TRIG/COMP2_CH2 (io), 17 PB4/SPI_NSS (io), 18 PB5/SPI_SCK (io), 19 PB6/SPI_MOSI (io), 20 PB7/SPI_MISO (io), 21 PD4 (io), 22 PD5 (io), 23 PD6 (io), 24 PD7 (io), 25 PC0/I2C_SDA (io), 26 PC1/I2C_SCL (io), 27 PC2/USART_RX (io), 28 PC3/USART_TX (io), 29 PC4/USART_CK/CCO (io), 30 PC5 (io), 31 PC6 (io), 32 PA0/SWIM/BEEP/IR_TIM (io)

## STM8L101K3U6
designator U?
STM8L ARM-based EnergyLite 8-bit MCU, 8 kB Flash, 1.5 kB Internal RAM, -40 to +85癈 Temperature, 32-pin UFQFPN, Tray; 封装库来自淘宝卖家ID：黄晶宝石: 其他店铺购入均为盗版假冒封装库; PackageVersion: 2010; PackageReference: UFQFPN32; PackageDescription: 32-Pin Ultra Thin Fine Pitch Quad Flat No-Lead, 5 x 5 X 0.6 mm Body, 0.5 mm Pitch, Exposed Pad; ComponentLink1Description: Manufacturer URL; ComponentLink1URL: http://www.st.com/; ComponentLink2Description: STM8L101 Datasheet; ComponentLink2URL: http://www.st.com/internet/com/TECHNICAL_RESOURCES/TECHNICAL_LITERATURE/DATASHEET/CD00220591.pdf; ComponentLink3Description: STM8L Family Web Page; ComponentLink3URL: http://www.st.com/internet/mcu/subclass/1381.jsp
footprint UFQFPN32_N (Manufacturer "STMicroelectronics" not found)
footprint UFQFPN32_L (QFN, 32-Leads, Body 5x5mm, Pitch 0.5mm, Thermal Pad 3.6x3.6mm, IPC High Density)
footprint UFQFPN32_M (QFN, 32-Leads, Body 5x5mm, Pitch 0.5mm, Thermal Pad 3.6x3.6mm, IPC Low Density)
pins: 1 NRST/PA1 (io), 2 PA2 (io), 3 PA3 (io), 4 PA4/TIM2_BKIN (io), 5 PA5/TIM3_BKIN (io), 6 PA6/COMP_REF (io), 7 VSS (power), 8 VDD (power), 9 PD0/TIM3_CH2/COMP1_CH3 (io), 10 PD1/TIM3_TRIG/COMP1_CH4 (io), 11 PD2/COMP2_CH3 (io), 12 PD3/COMP2_CH4 (io), 13 PB0/TIM2_CH1/COMP1_CH1 (io), 14 PB1/TIM3_CH1/COMP1_CH2 (io), 15 PB2/TIM2_CH2/COMP2_CH1 (io), 16 PB3/TIM2_TRIG/COMP2_CH2 (io), 17 PB4/SPI_NSS (io), 18 PB5/SPI_SCK (io), 19 PB6/SPI_MOSI (io), 20 PB7/SPI_MISO (io), 21 PD4 (io), 22 PD5 (io), 23 PD6 (io), 24 PD7 (io), 25 PC0/I2C_SDA (io), 26 PC1/I2C_SCL (io), 27 PC2/USART_RX (io), 28 PC3/USART_TX (io), 29 PC4/USART_CK/CCO (io), 30 PC5 (io), 31 PC6 (io), 32 PA0/SWIM/BEEP/IR_TIM (io), 33 EP (power)

## STM8L101K3U6TR
designator U?
STM8L ARM-based EnergyLite 8-bit MCU, 8 kB Flash, 1.5 kB Internal RAM, -40 to +85癈 Temperature, 32-pin UFQFPN, Tape and Reel; 封装库来自淘宝卖家ID：黄晶宝石: 其他店铺购入均为盗版假冒封装库; PackageVersion: 2010; PackageReference: UFQFPN32; PackageDescription: 32-Pin Ultra Thin Fine Pitch Quad Flat No-Lead, 5 x 5 X 0.6 mm Body, 0.5 mm Pitch, Exposed Pad; ComponentLink1Description: Manufacturer URL; ComponentLink1URL: http://www.st.com/; ComponentLink2Description: STM8L101 Datasheet; ComponentLink2URL: http://www.st.com/internet/com/TECHNICAL_RESOURCES/TECHNICAL_LITERATURE/DATASHEET/CD00220591.pdf; ComponentLink3Description: STM8L Family Web Page; ComponentLink3URL: http://www.st.com/internet/mcu/subclass/1381.jsp
footprint UFQFPN32_N (Manufacturer "STMicroelectronics" not found)
footprint UFQFPN32_L (QFN, 32-Leads, Body 5x5mm, Pitch 0.5mm, Thermal Pad 3.6x3.6mm, IPC High Density)
footprint UFQFPN32_M (QFN, 32-Leads, Body 5x5mm, Pitch 0.5mm, Thermal Pad 3.6x3.6mm, IPC Low Density)
pins: 1 NRST/PA1 (io), 2 PA2 (io), 3 PA3 (io), 4 PA4/TIM2_BKIN (io), 5 PA5/TIM3_BKIN (io), 6 PA6/COMP_REF (io), 7 VSS (power), 8 VDD (power), 9 PD0/TIM3_CH2/COMP1_CH3 (io), 10 PD1/TIM3_TRIG/COMP1_CH4 (io), 11 PD2/COMP2_CH3 (io), 12 PD3/COMP2_CH4 (io), 13 PB0/TIM2_CH1/COMP1_CH1 (io), 14 PB1/TIM3_CH1/COMP1_CH2 (io), 15 PB2/TIM2_CH2/COMP2_CH1 (io), 16 PB3/TIM2_TRIG/COMP2_CH2 (io), 17 PB4/SPI_NSS (io), 18 PB5/SPI_SCK (io), 19 PB6/SPI_MOSI (io), 20 PB7/SPI_MISO (io), 21 PD4 (io), 22 PD5 (io), 23 PD6 (io), 24 PD7 (io), 25 PC0/I2C_SDA (io), 26 PC1/I2C_SCL (io), 27 PC2/USART_RX (io), 28 PC3/USART_TX (io), 29 PC4/USART_CK/CCO (io), 30 PC5 (io), 31 PC6 (io), 32 PA0/SWIM/BEEP/IR_TIM (io), 33 EP (power)

## STM8L151C4T3
designator U?
STM8L ARM-based EnergyLite 8-bit MCU, 16 kB Flash, 2 kB Internal RAM, -40 to +125癈 Temperature, 48-pin LQFP, Tray; 封装库来自淘宝卖家ID：黄晶宝石: 其他店铺购入均为盗版假冒封装库; PackageVersion: rev13, Apr-2011; PackageReference: LQFP48; PackageDescription: 48-Pin Low-Profile Quad Flat Pack, 7 x 7 mm Body, 0.5 mm Pitch (LQFP48); ComponentLink1Description: Manufacturer URL; ComponentLink1URL: http://www.st.com/; ComponentLink2Description: STM8L151/152,x4,x6 Datasheet; ComponentLink2URL: http://www.st.com/internet/com/TECHNICAL_RESOURCES/TECHNICAL_LITERATURE/DATASHEET/CD00240181.pdf; ComponentLink3Description: STM8L Family Web Page; ComponentLink3URL: http://www.st.com/internet/mcu/subclass/1381.jsp
footprint LQFP48_N (Manufacturer "STMicroelectronics" not found)
footprint LQFP48_L (Thin QFP, 48-Leads, Body 7x7mm, Pitch 0.5mm, IPC High Density)
footprint LQFP48_M (Thin QFP, 48-Leads, Body 7x7mm, Pitch 0.5mm, IPC Low Density)
pins: 1 PA0 (io), 2 NRST/PA1 (io), 3 PA2 (io), 4 PA3 (io), 5 PA4 (io), 6 PA5 (io), 7 PA6 (io), 8 PA7 (io), 9 VSS1/VSSA/VREF- (power), 10 VDD1 (power), 11 VDDA (power), 12 VREF+ (power), 13 RES "Connect to VDD", 14 PE0 (io), 15 PE1 (io), 16 PE2 (io), 17 PE3 (io), 18 PE4 (io), 19 PE5 (io), 20 PD0 (io), 21 PD1 (io), 22 PD2 (io), 23 PD3 (io), 24 PB0 (io), 25 PB1 (io), 26 PB2 (io), 27 PB3 (io), 28 PB4 (io), 29 PB5 (io), 30 PB6 (io), 31 PB7 (io), 32 PF0 (io), 33 PD4 (io), 34 PD5 (io), 35 PD6 (io), 36 PD7 (io), 37 PC0 (io), 38 PC1 (io), 39 VDD2 (power), 40 VSS2 (power), 41 PC2 (io), 42 PC3 (io), 43 PC4 (io), 44 PC5 (io), 45 PC6 (io), 46 PC7 (io), 47 PE6 (io), 48 PE7 (io)

## STM8L151C4T6
designator U?
STM8L ARM-based EnergyLite 8-bit MCU, 16 kB Flash, 2 kB Internal RAM, -40 to +85癈 Temperature, 48-pin LQFP, Tray; 封装库来自淘宝卖家ID：黄晶宝石: 其他店铺购入均为盗版假冒封装库; PackageVersion: rev13, Apr-2011; PackageReference: LQFP48; PackageDescription: 48-Pin Low-Profile Quad Flat Pack, 7 x 7 mm Body, 0.5 mm Pitch (LQFP48); ComponentLink1Description: Manufacturer URL; ComponentLink1URL: http://www.st.com/; ComponentLink2Description: STM8L151/152,x4,x6 Datasheet; ComponentLink2URL: http://www.st.com/internet/com/TECHNICAL_RESOURCES/TECHNICAL_LITERATURE/DATASHEET/CD00240181.pdf; ComponentLink3Description: STM8L Family Web Page; ComponentLink3URL: http://www.st.com/internet/mcu/subclass/1381.jsp
footprint LQFP48_N (Manufacturer "STMicroelectronics" not found)
footprint LQFP48_L (Thin QFP, 48-Leads, Body 7x7mm, Pitch 0.5mm, IPC High Density)
footprint LQFP48_M (Thin QFP, 48-Leads, Body 7x7mm, Pitch 0.5mm, IPC Low Density)
pins: 1 PA0 (io), 2 NRST/PA1 (io), 3 PA2 (io), 4 PA3 (io), 5 PA4 (io), 6 PA5 (io), 7 PA6 (io), 8 PA7 (io), 9 VSS1/VSSA/VREF- (power), 10 VDD1 (power), 11 VDDA (power), 12 VREF+ (power), 13 RES "Connect to VDD", 14 PE0 (io), 15 PE1 (io), 16 PE2 (io), 17 PE3 (io), 18 PE4 (io), 19 PE5 (io), 20 PD0 (io), 21 PD1 (io), 22 PD2 (io), 23 PD3 (io), 24 PB0 (io), 25 PB1 (io), 26 PB2 (io), 27 PB3 (io), 28 PB4 (io), 29 PB5 (io), 30 PB6 (io), 31 PB7 (io), 32 PF0 (io), 33 PD4 (io), 34 PD5 (io), 35 PD6 (io), 36 PD7 (io), 37 PC0 (io), 38 PC1 (io), 39 VDD2 (power), 40 VSS2 (power), 41 PC2 (io), 42 PC3 (io), 43 PC4 (io), 44 PC5 (io), 45 PC6 (io), 46 PC7 (io), 47 PE6 (io), 48 PE7 (io)

## STM8L151C4T6BGT
designator U?
STM8L ARM-based EnergyLite 8-bit MCU, 16 kB Flash, 2 kB Internal RAM, -40 to +85癈 Temperature, 48-pin LQFP, Tray; 封装库来自淘宝卖家ID：黄晶宝石: 其他店铺购入均为盗版假冒封装库; PackageVersion: rev13, Apr-2011; PackageReference: LQFP48; PackageDescription: 48-Pin Low-Profile Quad Flat Pack, 7 x 7 mm Body, 0.5 mm Pitch (LQFP48); ComponentLink1Description: Manufacturer URL; ComponentLink1URL: http://www.st.com/; ComponentLink2Description: STM8L151/152,x4,x6 Datasheet; ComponentLink2URL: http://www.st.com/internet/com/TECHNICAL_RESOURCES/TECHNICAL_LITERATURE/DATASHEET/CD00240181.pdf; ComponentLink3Description: STM8L Family Web Page; ComponentLink3URL: http://www.st.com/internet/mcu/subclass/1381.jsp
footprint LQFP48_N (Manufacturer "STMicroelectronics" not found)
footprint LQFP48_L (Thin QFP, 48-Leads, Body 7x7mm, Pitch 0.5mm, IPC High Density)
footprint LQFP48_M (Thin QFP, 48-Leads, Body 7x7mm, Pitch 0.5mm, IPC Low Density)
pins: 1 PA0 (io), 2 NRST/PA1 (io), 3 PA2 (io), 4 PA3 (io), 5 PA4 (io), 6 PA5 (io), 7 PA6 (io), 8 PA7 (io), 9 VSS1/VSSA/VREF- (power), 10 VDD1 (power), 11 VDDA (power), 12 VREF+ (power), 13 RES "Connect to VDD", 14 PE0 (io), 15 PE1 (io), 16 PE2 (io), 17 PE3 (io), 18 PE4 (io), 19 PE5 (io), 20 PD0 (io), 21 PD1 (io), 22 PD2 (io), 23 PD3 (io), 24 PB0 (io), 25 PB1 (io), 26 PB2 (io), 27 PB3 (io), 28 PB4 (io), 29 PB5 (io), 30 PB6 (io), 31 PB7 (io), 32 PF0 (io), 33 PD4 (io), 34 PD5 (io), 35 PD6 (io), 36 PD7 (io), 37 PC0 (io), 38 PC1 (io), 39 VDD2 (power), 40 VSS2 (power), 41 PC2 (io), 42 PC3 (io), 43 PC4 (io), 44 PC5 (io), 45 PC6 (io), 46 PC7 (io), 47 PE6 (io), 48 PE7 (io)

## STM8L151C4T6TR
designator U?
STM8L ARM-based EnergyLite 8-bit MCU, 16 kB Flash, 2 kB Internal RAM, -40 to +85癈 Temperature, 48-pin LQFP, Tape and Reel; 封装库来自淘宝卖家ID：黄晶宝石: 其他店铺购入均为盗版假冒封装库; PackageVersion: rev13, Apr-2011; PackageReference: LQFP48; PackageDescription: 48-Pin Low-Profile Quad Flat Pack, 7 x 7 mm Body, 0.5 mm Pitch (LQFP48); ComponentLink1Description: Manufacturer URL; ComponentLink1URL: http://www.st.com/; ComponentLink2Description: STM8L151/152,x4,x6 Datasheet; ComponentLink2URL: http://www.st.com/internet/com/TECHNICAL_RESOURCES/TECHNICAL_LITERATURE/DATASHEET/CD00240181.pdf; ComponentLink3Description: STM8L Family Web Page; ComponentLink3URL: http://www.st.com/internet/mcu/subclass/1381.jsp
footprint LQFP48_N (Manufacturer "STMicroelectronics" not found)
footprint LQFP48_L (Thin QFP, 48-Leads, Body 7x7mm, Pitch 0.5mm, IPC High Density)
footprint LQFP48_M (Thin QFP, 48-Leads, Body 7x7mm, Pitch 0.5mm, IPC Low Density)
pins: 1 PA0 (io), 2 NRST/PA1 (io), 3 PA2 (io), 4 PA3 (io), 5 PA4 (io), 6 PA5 (io), 7 PA6 (io), 8 PA7 (io), 9 VSS1/VSSA/VREF- (power), 10 VDD1 (power), 11 VDDA (power), 12 VREF+ (power), 13 RES "Connect to VDD", 14 PE0 (io), 15 PE1 (io), 16 PE2 (io), 17 PE3 (io), 18 PE4 (io), 19 PE5 (io), 20 PD0 (io), 21 PD1 (io), 22 PD2 (io), 23 PD3 (io), 24 PB0 (io), 25 PB1 (io), 26 PB2 (io), 27 PB3 (io), 28 PB4 (io), 29 PB5 (io), 30 PB6 (io), 31 PB7 (io), 32 PF0 (io), 33 PD4 (io), 34 PD5 (io), 35 PD6 (io), 36 PD7 (io), 37 PC0 (io), 38 PC1 (io), 39 VDD2 (power), 40 VSS2 (power), 41 PC2 (io), 42 PC3 (io), 43 PC4 (io), 44 PC5 (io), 45 PC6 (io), 46 PC7 (io), 47 PE6 (io), 48 PE7 (io)

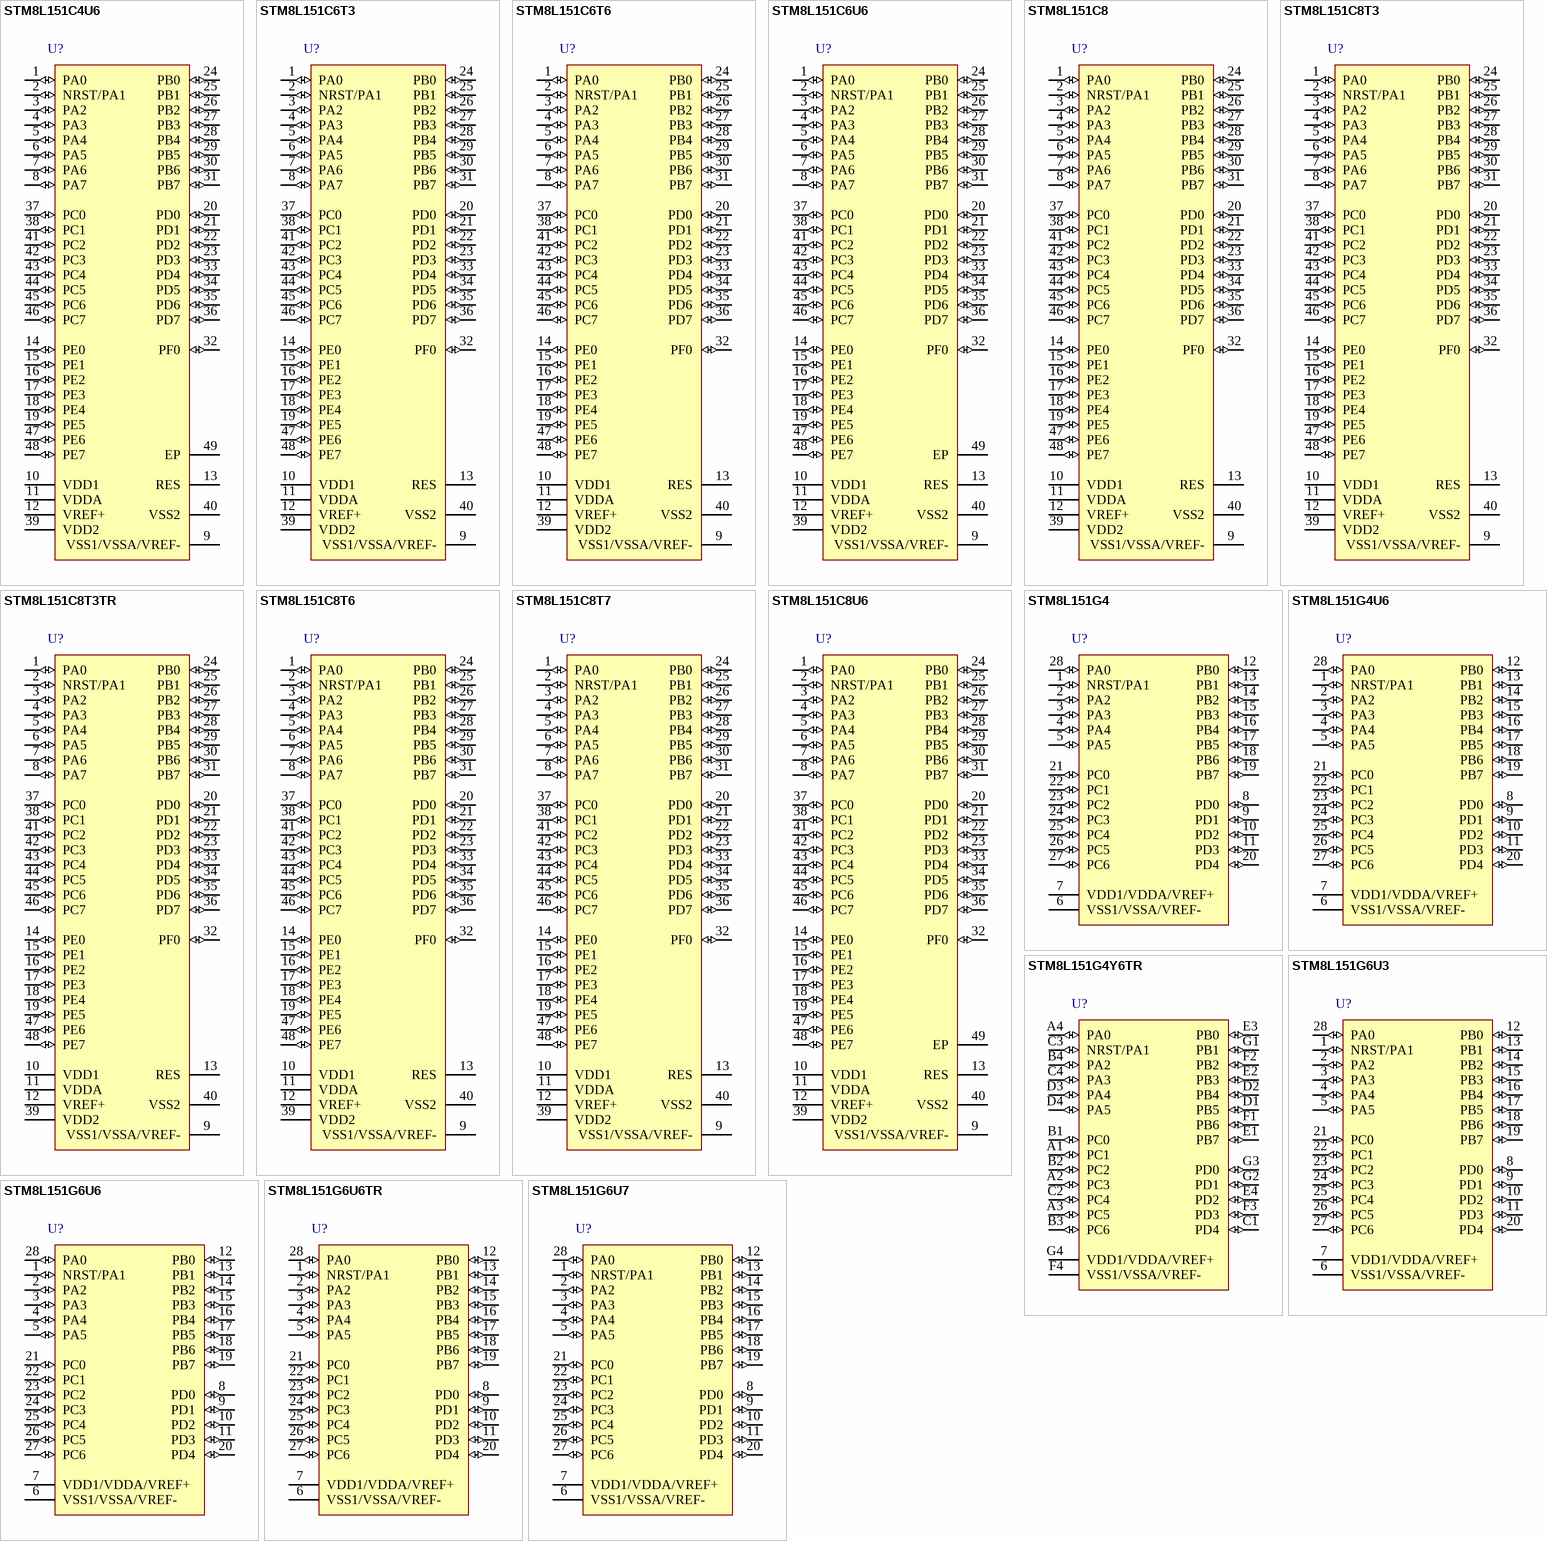
[diagram p3: symbols STM8L151C4U6 to STM8L151G6U7]

## STM8L151C4U6
designator U?
STM8L ARM-based EnergyLite 8-bit MCU, 16 kB Flash, 2 kB Internal RAM, -40 to +85癈 Temperature, 48-pin UFQFPN, Tray; 封装库来自淘宝卖家ID：黄晶宝石: 其他店铺购入均为盗版假冒封装库; PackageVersion: 2011; PackageReference: UFQFPN48; PackageDescription: 48-Pin Ultra Thin Fine Pitch Quad Flat No-Lead, 7 x 7 x 0.55 mm Body, 0.5 mm Pitch, Exposed Pad; ComponentLink1Description: Manufacturer URL; ComponentLink1URL: http://www.st.com/; ComponentLink2Description: STM8L151/152,x4,x6 Datasheet; ComponentLink2URL: http://www.st.com/internet/com/TECHNICAL_RESOURCES/TECHNICAL_LITERATURE/DATASHEET/CD00240181.pdf; ComponentLink3Description: STM8L Family Web Page; ComponentLink3URL: http://www.st.com/internet/mcu/subclass/1381.jsp
footprint UFQFPN48_N (Manufacturer "STMicroelectronics" not found)
footprint UFQFPN48_L (QFN, 48-Leads, Body 7x7mm, Pitch 0.5mm, Thermal Pad 5.6x5.6mm, IPC High Density)
footprint UFQFPN48_M (QFN, 48-Leads, Body 7x7mm, Pitch 0.5mm, Thermal Pad 5.6x5.6mm, IPC Low Density)
pins: 1 PA0 (io), 2 NRST/PA1 (io), 3 PA2 (io), 4 PA3 (io), 5 PA4 (io), 6 PA5 (io), 7 PA6 (io), 8 PA7 (io), 9 VSS1/VSSA/VREF- (power), 10 VDD1 (power), 11 VDDA (power), 12 VREF+ (power), 13 RES "Connect to VDD", 14 PE0 (io), 15 PE1 (io), 16 PE2 (io), 17 PE3 (io), 18 PE4 (io), 19 PE5 (io), 20 PD0 (io), 21 PD1 (io), 22 PD2 (io), 23 PD3 (io), 24 PB0 (io), 25 PB1 (io), 26 PB2 (io), 27 PB3 (io), 28 PB4 (io), 29 PB5 (io), 30 PB6 (io), 31 PB7 (io), 32 PF0 (io), 33 PD4 (io), 34 PD5 (io), 35 PD6 (io), 36 PD7 (io), 37 PC0 (io), 38 PC1 (io), 39 VDD2 (power), 40 VSS2 (power), 41 PC2 (io), 42 PC3 (io), 43 PC4 (io), 44 PC5 (io), 45 PC6 (io), 46 PC7 (io), 47 PE6 (io), 48 PE7 (io), 49 EP (power)

## STM8L151C6T3
designator U?
STM8L ARM-based EnergyLite 8-bit MCU, 32 kB Flash, 2 kB Internal RAM, -40 to +125癈 Temperature, 48-pin LQFP, Tray; 封装库来自淘宝卖家ID：黄晶宝石: 其他店铺购入均为盗版假冒封装库; PackageVersion: rev13, Apr-2011; PackageReference: LQFP48; PackageDescription: 48-Pin Low-Profile Quad Flat Pack, 7 x 7 mm Body, 0.5 mm Pitch (LQFP48); ComponentLink1Description: Manufacturer URL; ComponentLink1URL: http://www.st.com/; ComponentLink2Description: STM8L151/152,x4,x6 Datasheet; ComponentLink2URL: http://www.st.com/internet/com/TECHNICAL_RESOURCES/TECHNICAL_LITERATURE/DATASHEET/CD00240181.pdf; ComponentLink3Description: STM8L Family Web Page; ComponentLink3URL: http://www.st.com/internet/mcu/subclass/1381.jsp
footprint LQFP48_N (Manufacturer "STMicroelectronics" not found)
footprint LQFP48_L (Thin QFP, 48-Leads, Body 7x7mm, Pitch 0.5mm, IPC High Density)
footprint LQFP48_M (Thin QFP, 48-Leads, Body 7x7mm, Pitch 0.5mm, IPC Low Density)
pins: 1 PA0 (io), 2 NRST/PA1 (io), 3 PA2 (io), 4 PA3 (io), 5 PA4 (io), 6 PA5 (io), 7 PA6 (io), 8 PA7 (io), 9 VSS1/VSSA/VREF- (power), 10 VDD1 (power), 11 VDDA (power), 12 VREF+ (power), 13 RES "Connect to VDD", 14 PE0 (io), 15 PE1 (io), 16 PE2 (io), 17 PE3 (io), 18 PE4 (io), 19 PE5 (io), 20 PD0 (io), 21 PD1 (io), 22 PD2 (io), 23 PD3 (io), 24 PB0 (io), 25 PB1 (io), 26 PB2 (io), 27 PB3 (io), 28 PB4 (io), 29 PB5 (io), 30 PB6 (io), 31 PB7 (io), 32 PF0 (io), 33 PD4 (io), 34 PD5 (io), 35 PD6 (io), 36 PD7 (io), 37 PC0 (io), 38 PC1 (io), 39 VDD2 (power), 40 VSS2 (power), 41 PC2 (io), 42 PC3 (io), 43 PC4 (io), 44 PC5 (io), 45 PC6 (io), 46 PC7 (io), 47 PE6 (io), 48 PE7 (io)

## STM8L151C6T6
designator U?
STM8L ARM-based EnergyLite 8-bit MCU, 32 kB Flash, 2 kB Internal RAM, -40 to +85癈 Temperature, 48-pin LQFP, Tray; 封装库来自淘宝卖家ID：黄晶宝石: 其他店铺购入均为盗版假冒封装库; PackageVersion: rev13, Apr-2011; PackageReference: LQFP48; PackageDescription: 48-Pin Low-Profile Quad Flat Pack, 7 x 7 mm Body, 0.5 mm Pitch (LQFP48); ComponentLink1Description: Manufacturer URL; ComponentLink1URL: http://www.st.com/; ComponentLink2Description: STM8L151/152,x4,x6 Datasheet; ComponentLink2URL: http://www.st.com/internet/com/TECHNICAL_RESOURCES/TECHNICAL_LITERATURE/DATASHEET/CD00240181.pdf; ComponentLink3Description: STM8L Family Web Page; ComponentLink3URL: http://www.st.com/internet/mcu/subclass/1381.jsp
footprint LQFP48_N (Manufacturer "STMicroelectronics" not found)
footprint LQFP48_L (Thin QFP, 48-Leads, Body 7x7mm, Pitch 0.5mm, IPC High Density)
footprint LQFP48_M (Thin QFP, 48-Leads, Body 7x7mm, Pitch 0.5mm, IPC Low Density)
pins: 1 PA0 (io), 2 NRST/PA1 (io), 3 PA2 (io), 4 PA3 (io), 5 PA4 (io), 6 PA5 (io), 7 PA6 (io), 8 PA7 (io), 9 VSS1/VSSA/VREF- (power), 10 VDD1 (power), 11 VDDA (power), 12 VREF+ (power), 13 RES "Connect to VDD", 14 PE0 (io), 15 PE1 (io), 16 PE2 (io), 17 PE3 (io), 18 PE4 (io), 19 PE5 (io), 20 PD0 (io), 21 PD1 (io), 22 PD2 (io), 23 PD3 (io), 24 PB0 (io), 25 PB1 (io), 26 PB2 (io), 27 PB3 (io), 28 PB4 (io), 29 PB5 (io), 30 PB6 (io), 31 PB7 (io), 32 PF0 (io), 33 PD4 (io), 34 PD5 (io), 35 PD6 (io), 36 PD7 (io), 37 PC0 (io), 38 PC1 (io), 39 VDD2 (power), 40 VSS2 (power), 41 PC2 (io), 42 PC3 (io), 43 PC4 (io), 44 PC5 (io), 45 PC6 (io), 46 PC7 (io), 47 PE6 (io), 48 PE7 (io)

## STM8L151C6U6
designator U?
STM8L ARM-based EnergyLite 8-bit MCU, 32 kB Flash, 2 kB Internal RAM, -40 to +85癈 Temperature, 48-pin UFQFPN, Tray; 封装库来自淘宝卖家ID：黄晶宝石: 其他店铺购入均为盗版假冒封装库; PackageVersion: 2011; PackageReference: UFQFPN48; PackageDescription: 48-Pin Ultra Thin Fine Pitch Quad Flat No-Lead, 7 x 7 x 0.55 mm Body, 0.5 mm Pitch, Exposed Pad; ComponentLink1Description: Manufacturer URL; ComponentLink1URL: http://www.st.com/; ComponentLink2Description: STM8L151/152,x4,x6 Datasheet; ComponentLink2URL: http://www.st.com/internet/com/TECHNICAL_RESOURCES/TECHNICAL_LITERATURE/DATASHEET/CD00240181.pdf; ComponentLink3Description: STM8L Family Web Page; ComponentLink3URL: http://www.st.com/internet/mcu/subclass/1381.jsp
footprint UFQFPN48_N (Manufacturer "STMicroelectronics" not found)
footprint UFQFPN48_L (QFN, 48-Leads, Body 7x7mm, Pitch 0.5mm, Thermal Pad 5.6x5.6mm, IPC High Density)
footprint UFQFPN48_M (QFN, 48-Leads, Body 7x7mm, Pitch 0.5mm, Thermal Pad 5.6x5.6mm, IPC Low Density)
pins: 1 PA0 (io), 2 NRST/PA1 (io), 3 PA2 (io), 4 PA3 (io), 5 PA4 (io), 6 PA5 (io), 7 PA6 (io), 8 PA7 (io), 9 VSS1/VSSA/VREF- (power), 10 VDD1 (power), 11 VDDA (power), 12 VREF+ (power), 13 RES "Connect to VDD", 14 PE0 (io), 15 PE1 (io), 16 PE2 (io), 17 PE3 (io), 18 PE4 (io), 19 PE5 (io), 20 PD0 (io), 21 PD1 (io), 22 PD2 (io), 23 PD3 (io), 24 PB0 (io), 25 PB1 (io), 26 PB2 (io), 27 PB3 (io), 28 PB4 (io), 29 PB5 (io), 30 PB6 (io), 31 PB7 (io), 32 PF0 (io), 33 PD4 (io), 34 PD5 (io), 35 PD6 (io), 36 PD7 (io), 37 PC0 (io), 38 PC1 (io), 39 VDD2 (power), 40 VSS2 (power), 41 PC2 (io), 42 PC3 (io), 43 PC4 (io), 44 PC5 (io), 45 PC6 (io), 46 PC7 (io), 47 PE6 (io), 48 PE7 (io), 49 EP (power)

## STM8L151C8
designator U?
STM8L ARM-based EnergyLite 8-bit MCU, 64 kB Flash, 4 kB Internal RAM, 48-pin LQFP; 封装库来自淘宝卖家ID：黄晶宝石: 其他店铺购入均为盗版假冒封装库; PackageVersion: rev13, Apr-2011; PackageReference: LQFP48; PackageDescription: 48-Pin Low-Profile Quad Flat Pack, 7 x 7 mm Body, 0.5 mm Pitch (LQFP48); ComponentLink1Description: Manufacturer URL; ComponentLink1URL: http://www.st.com/; ComponentLink2Description: STM8L151/152,x8,R6 Datasheet; ComponentLink2URL: http://www.st.com/internet/com/TECHNICAL_RESOURCES/TECHNICAL_LITERATURE/DATASHEET/CD00284933.pdf; ComponentLink3Description: STM8L Family Web Page; ComponentLink3URL: http://www.st.com/internet/mcu/subclass/1381.jsp
footprint LQFP48_N (Manufacturer "STMicroelectronics" not found)
footprint LQFP48_L (Thin QFP, 48-Leads, Body 7x7mm, Pitch 0.5mm, IPC High Density)
footprint LQFP48_M (Thin QFP, 48-Leads, Body 7x7mm, Pitch 0.5mm, IPC Low Density)
pins: 1 PA0 (io), 2 NRST/PA1 (io), 3 PA2 (io), 4 PA3 (io), 5 PA4 (io), 6 PA5 (io), 7 PA6 (io), 8 PA7 (io), 9 VSS1/VSSA/VREF- (power), 10 VDD1 (power), 11 VDDA (power), 12 VREF+ (power), 13 RES "Connect to VDD", 14 PE0 (io), 15 PE1 (io), 16 PE2 (io), 17 PE3 (io), 18 PE4 (io), 19 PE5 (io), 20 PD0 (io), 21 PD1 (io), 22 PD2 (io), 23 PD3 (io), 24 PB0 (io), 25 PB1 (io), 26 PB2 (io), 27 PB3 (io), 28 PB4 (io), 29 PB5 (io), 30 PB6 (io), 31 PB7 (io), 32 PF0 (io), 33 PD4 (io), 34 PD5 (io), 35 PD6 (io), 36 PD7 (io), 37 PC0 (io), 38 PC1 (io), 39 VDD2 (power), 40 VSS2 (power), 41 PC2 (io), 42 PC3 (io), 43 PC4 (io), 44 PC5 (io), 45 PC6 (io), 46 PC7 (io), 47 PE6 (io), 48 PE7 (io)

## STM8L151C8T3
designator U?
STM8L ARM-based EnergyLite 8-bit MCU, 64 kB Flash, 4 kB Internal RAM, -40 to +125癈 Temperature, 48-pin LQFP, Tray; 封装库来自淘宝卖家ID：黄晶宝石: 其他店铺购入均为盗版假冒封装库; PackageVersion: rev13, Apr-2011; PackageReference: LQFP48; PackageDescription: 48-Pin Low-Profile Quad Flat Pack, 7 x 7 mm Body, 0.5 mm Pitch (LQFP48); ComponentLink1Description: Manufacturer URL; ComponentLink1URL: http://www.st.com/; ComponentLink2Description: STM8L151/152,x8,R6 Datasheet; ComponentLink2URL: http://www.st.com/internet/com/TECHNICAL_RESOURCES/TECHNICAL_LITERATURE/DATASHEET/CD00284933.pdf; ComponentLink3Description: STM8L Family Web Page; ComponentLink3URL: http://www.st.com/internet/mcu/subclass/1381.jsp
footprint LQFP48_N (Manufacturer "STMicroelectronics" not found)
footprint LQFP48_L (Thin QFP, 48-Leads, Body 7x7mm, Pitch 0.5mm, IPC High Density)
footprint LQFP48_M (Thin QFP, 48-Leads, Body 7x7mm, Pitch 0.5mm, IPC Low Density)
pins: 1 PA0 (io), 2 NRST/PA1 (io), 3 PA2 (io), 4 PA3 (io), 5 PA4 (io), 6 PA5 (io), 7 PA6 (io), 8 PA7 (io), 9 VSS1/VSSA/VREF- (power), 10 VDD1 (power), 11 VDDA (power), 12 VREF+ (power), 13 RES "Connect to VDD", 14 PE0 (io), 15 PE1 (io), 16 PE2 (io), 17 PE3 (io), 18 PE4 (io), 19 PE5 (io), 20 PD0 (io), 21 PD1 (io), 22 PD2 (io), 23 PD3 (io), 24 PB0 (io), 25 PB1 (io), 26 PB2 (io), 27 PB3 (io), 28 PB4 (io), 29 PB5 (io), 30 PB6 (io), 31 PB7 (io), 32 PF0 (io), 33 PD4 (io), 34 PD5 (io), 35 PD6 (io), 36 PD7 (io), 37 PC0 (io), 38 PC1 (io), 39 VDD2 (power), 40 VSS2 (power), 41 PC2 (io), 42 PC3 (io), 43 PC4 (io), 44 PC5 (io), 45 PC6 (io), 46 PC7 (io), 47 PE6 (io), 48 PE7 (io)